# Altium integrated library Altera APEX 20KE.IntLib: 235 symbols (part 10 of 49)
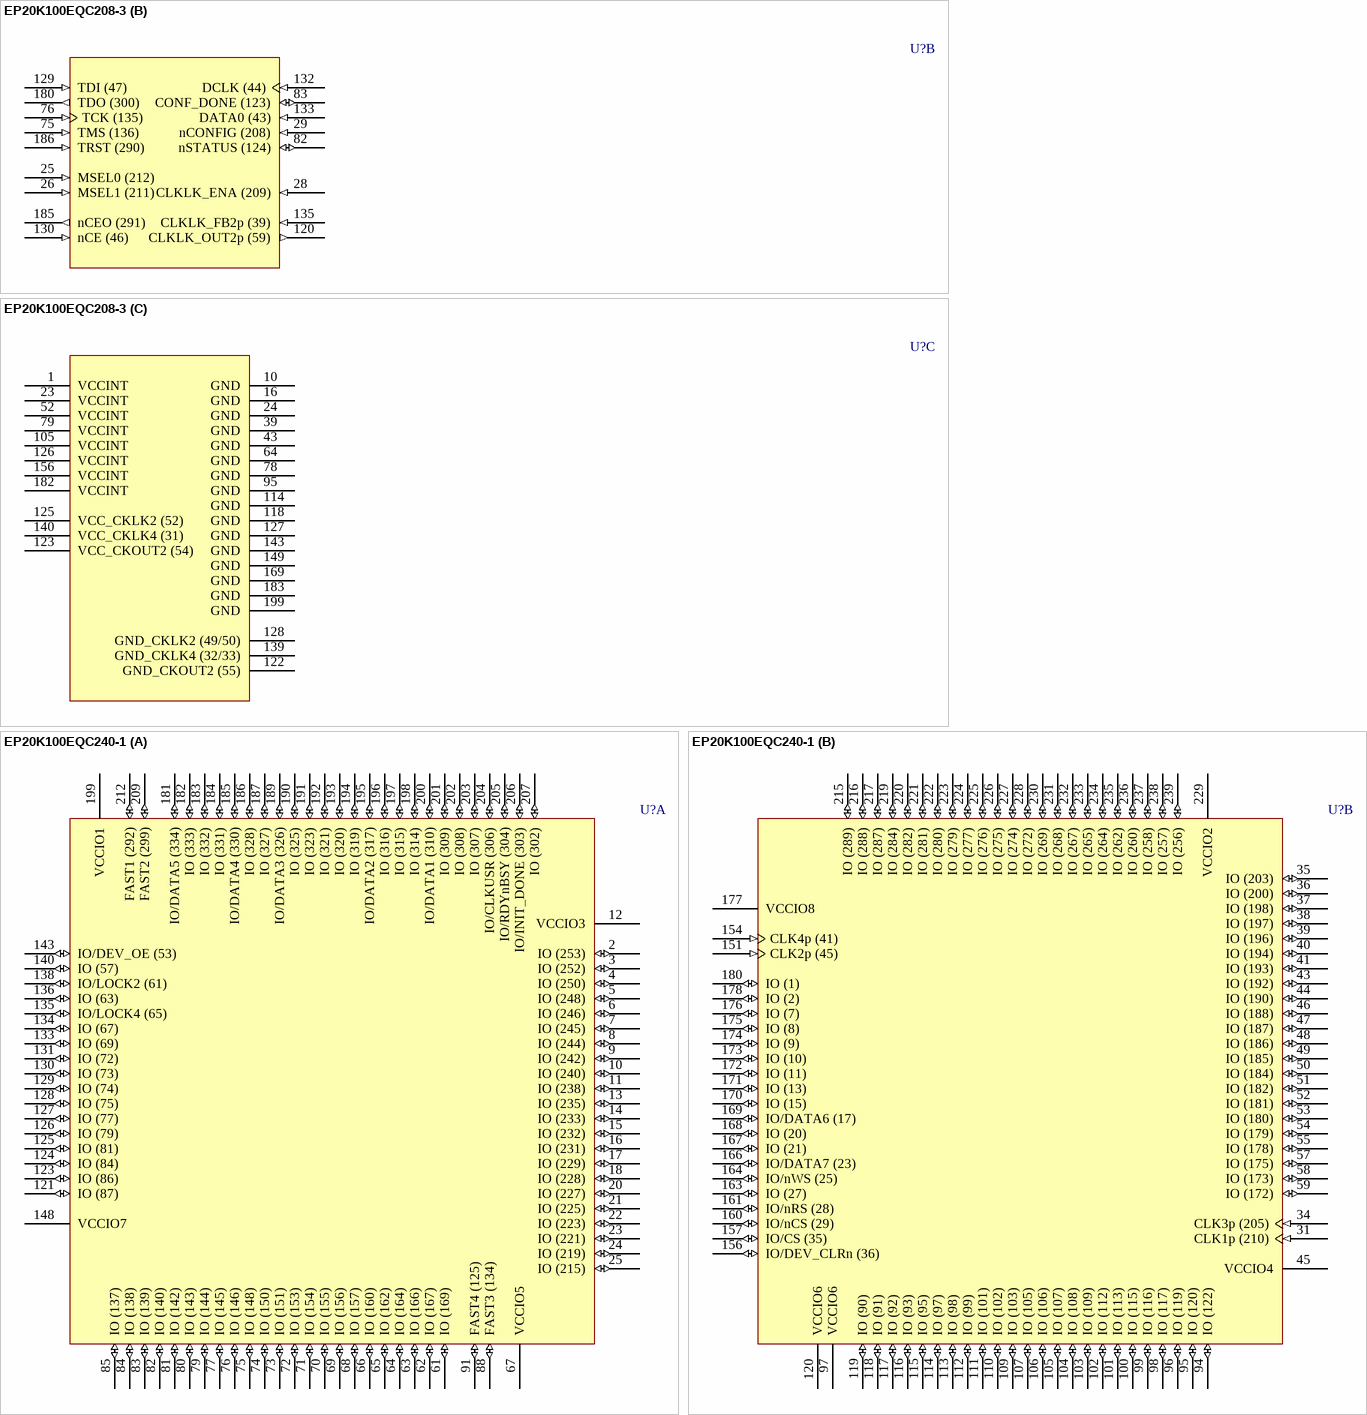
[diagram p408: symbols EP20K100EQC208-3 to EP20K100EQC240-1]

## EP20K100EQC208-3
designator U?
APEX 20K100E PLD, 208-Pin PQFP, Commercial Grade, Speed Grade 3; Published: 17-Jul-2002; LatestRevisionDate: 13-Apr-2006; LatestRevisionNote: IPC-7351 Footprint Added.; DatasheetVersion: Mar-2004; PackageVersion: ver14.1, Oct-2005; PackageReference: PQFP208; Publisher: Altium Limited; PackageDescription: 208-Pin Plastic Quad Flat Pack (PQFP208); Code_JEDEC: MS-029-FA-1; ComponentLink1Description: Manufacturer Link; ComponentLink1URL: http://www.altera.com/products/devices/apex/apx-index.html; ComponentLink2Description: Datasheet; ComponentLink2URL: http://www.altera.com/literature/ds/apex.pdf
footprint PQFP208_N (Shrink QFP, 208-Leads, Body 28x28mm, Pitch 0.5mm, IPC Medium Density)
footprint PQFP208_L (Shrink QFP, 208-Leads, Body 28x28mm, Pitch 0.5mm, IPC High Density)
footprint PQFP208_M (Shrink QFP, 208-Leads, Body 28x28mm, Pitch 0.5mm, IPC Low Density)
3D model EP20K100E-PQFP208 (208-Pin Plastic Quad Flat Pack (PQFP208))
part A pins: 2 IO (253) (io), 3 IO (252) (io), 4 IO (250) (io), 5 IO (248) (io), 6 IO (246) (io), 7 IO (245) (io), 8 VCCIO3 (power), 9 IO (242) (io), 11 IO (240) (io), 12 IO (235) (io), 13 IO (233) (io), 14 IO (229) (io), 15 IO (228) (io), 17 IO (227) (io), 18 IO (225) (io), 19 IO (223) (io), 20 IO (221) (io), 21 IO (219) (io), 22 IO (215) (io), 27 CLK1p (210) (in), 30 IO/CLK1n (206) (io), 31 CLK3p (205) (in), 32 IO (203) (io), 33 IO (200) (io), 34 IO (198) (io), 35 IO (197) (io), 36 IO (196) (io), 37 IO (194) (io), 38 IO (193) (io), 40 IO (192) (io), 41 IO (190) (io), 42 VCCIO4 (power), 44 IO (186) (io), 45 IO (184) (io), 46 IO (182) (io), 47 IO (180) (io), 48 IO (178) (io), 49 IO (175) (io), 50 IO (173) (io), 51 IO (172) (io), 53 VCCIO4 (power), 54 IO (169) (io), 55 IO (167) (io), 56 IO (166) (io), 57 IO (164) (io), 58 IO (162) (io), 59 IO (160) (io), 60 IO (157) (io), 61 IO (156) (io), 62 IO (154) (io), 63 IO (153) (io), 65 IO (151) (io), 66 IO (150) (io), 67 IO (148) (io), 68 IO (146) (io), 69 IO (145) (io), 70 IO (144) (io), 71 IO (142) (io), 72 IO (140) (io), 73 IO (138) (io), 74 IO (137) (io), 77 FAST3 (134) (io), 80 VCCIO5 (power), 81 FAST4 (125) (io), 84 IO (120) (io), 85 IO (119) (io), 86 VCCIO6 (power), 87 IO (117) (io), 88 IO (116) (io), 89 IO (115) (io), 90 IO (113) (io), 91 IO (112) (io), 92 IO (109) (io), 93 IO (107) (io), 94 IO (105) (io), 96 IO (103) (io), 97 IO (102) (io), 98 IO (101) (io), 99 IO (98) (io), 100 IO (97) (io), 101 IO (95) (io), 102 IO (93) (io), 103 IO (92) (io), 104 IO (90) (io), 106 IO (87) (io), 107 IO (86) (io), 108 IO (84) (io), 109 IO (81) (io), 110 IO (79) (io), 111 IO (77) (io), 112 IO (75) (io), 113 IO (74) (io), 115 VCCIO7 (power), 116 IO/LOCK4 (65) (io), 117 IO (63) (io), 119 IO/LOCK2 (61) (io), 121 IO (57) (io), 124 IO/DEV_OE (53) (io), 131 CLK2p (45) (in), 134 CLK4p (41) (in), 136 VCCIO8 (power), 137 IO/DEV_CLRn (36) (io), 138 IO/CS (35) (io), 141 IO/nCS (29) (io), 142 IO/nRS (28) (io), 144 IO (27) (io), 145 IO/nWS (25) (io), 146 IO/DATA7 (23) (io), 147 IO (21) (io), 148 IO (20) (io), 150 IO/DATA6 (17) (io), 151 IO (15) (io), 152 IO (11) (io), 153 IO (9) (io), 154 IO (7) (io), 155 IO (2) (io), 157 IO/DATA5 (334) (io), 158 IO (332) (io), 159 IO (331) (io), 160 IO/DATA4 (330) (io), 161 IO (328) (io), 162 IO (327) (io), 163 IO/DATA3 (326) (io), 164 IO (321) (io), 165 IO (320) (io), 166 IO (319) (io), 167 IO (318) (io), 168 IO/DATA2 (317) (io), 170 IO (316) (io), 171 IO (314) (io), 172 VCCIO1 (power), 173 IO/DATA1 (310) (io), 174 IO (309) (io), 175 IO (308) (io), 176 IO/CLKUSR (306) (io), 177 IO/RDYnBSY (304) (io), 178 IO/INIT_DONE (303) (io), 179 IO (302) (io), 181 FAST2 (299) (io), 184 FAST1 (292) (io), 187 IO (289) (io), 188 IO (287) (io), 189 VCCIO3 (power), 190 IO (284) (io), 191 IO (282) (io), 192 IO (280) (io), 193 IO (279) (io), 194 IO (277) (io), 195 IO (275) (io), 196 IO (274) (io), 197 IO (272) (io), 198 IO (269) (io), 200 IO (268) (io), 201 IO (267) (io), 202 IO (265) (io), 203 IO (264) (io), 204 IO (262) (io), 205 IO (260) (io), 206 IO (258) (io), 207 IO (256) (io), 208 VCCIO2 (power)
part B pins: 25 MSEL0 (212) (in), 26 MSEL1 (211) (in), 28 CLKLK_ENA (209) (in), 29 nCONFIG (208) (in), 75 TMS (136) (in), 76 TCK (135) (in), 82 nSTATUS (124) (io), 83 CONF_DONE (123) (io), 120 CLKLK_OUT2p (59) (out), 129 TDI (47) (in), 130 nCE (46) (in), 132 DCLK (44) (in), 133 DATA0 (43) (in), 135 CLKLK_FB2p (39) (in), 180 TDO (300) (out), 185 nCEO (291) (out), 186 TRST (290) (in)
part C pins: 1 VCCINT (power), 10 GND (power), 16 GND (power), 23 VCCINT (power), 24 GND (power), 39 GND (power), 43 GND (power), 52 VCCINT (power), 64 GND (power), 78 GND (power), 79 VCCINT (power), 95 GND (power), 105 VCCINT (power), 114 GND (power), 118 GND (power), 122 GND_CKOUT2 (55) (power), 123 VCC_CKOUT2 (54) (power), 125 VCC_CKLK2 (52) (power), 126 VCCINT (power), 127 GND (power), 128 GND_CKLK2 (49/50) (power), 139 GND_CKLK4 (32/33) (power), 140 VCC_CKLK4 (31) (power), 143 GND (power), 149 GND (power), 156 VCCINT (power), 169 GND (power), 182 VCCINT (power), 183 GND (power), 199 GND (power)

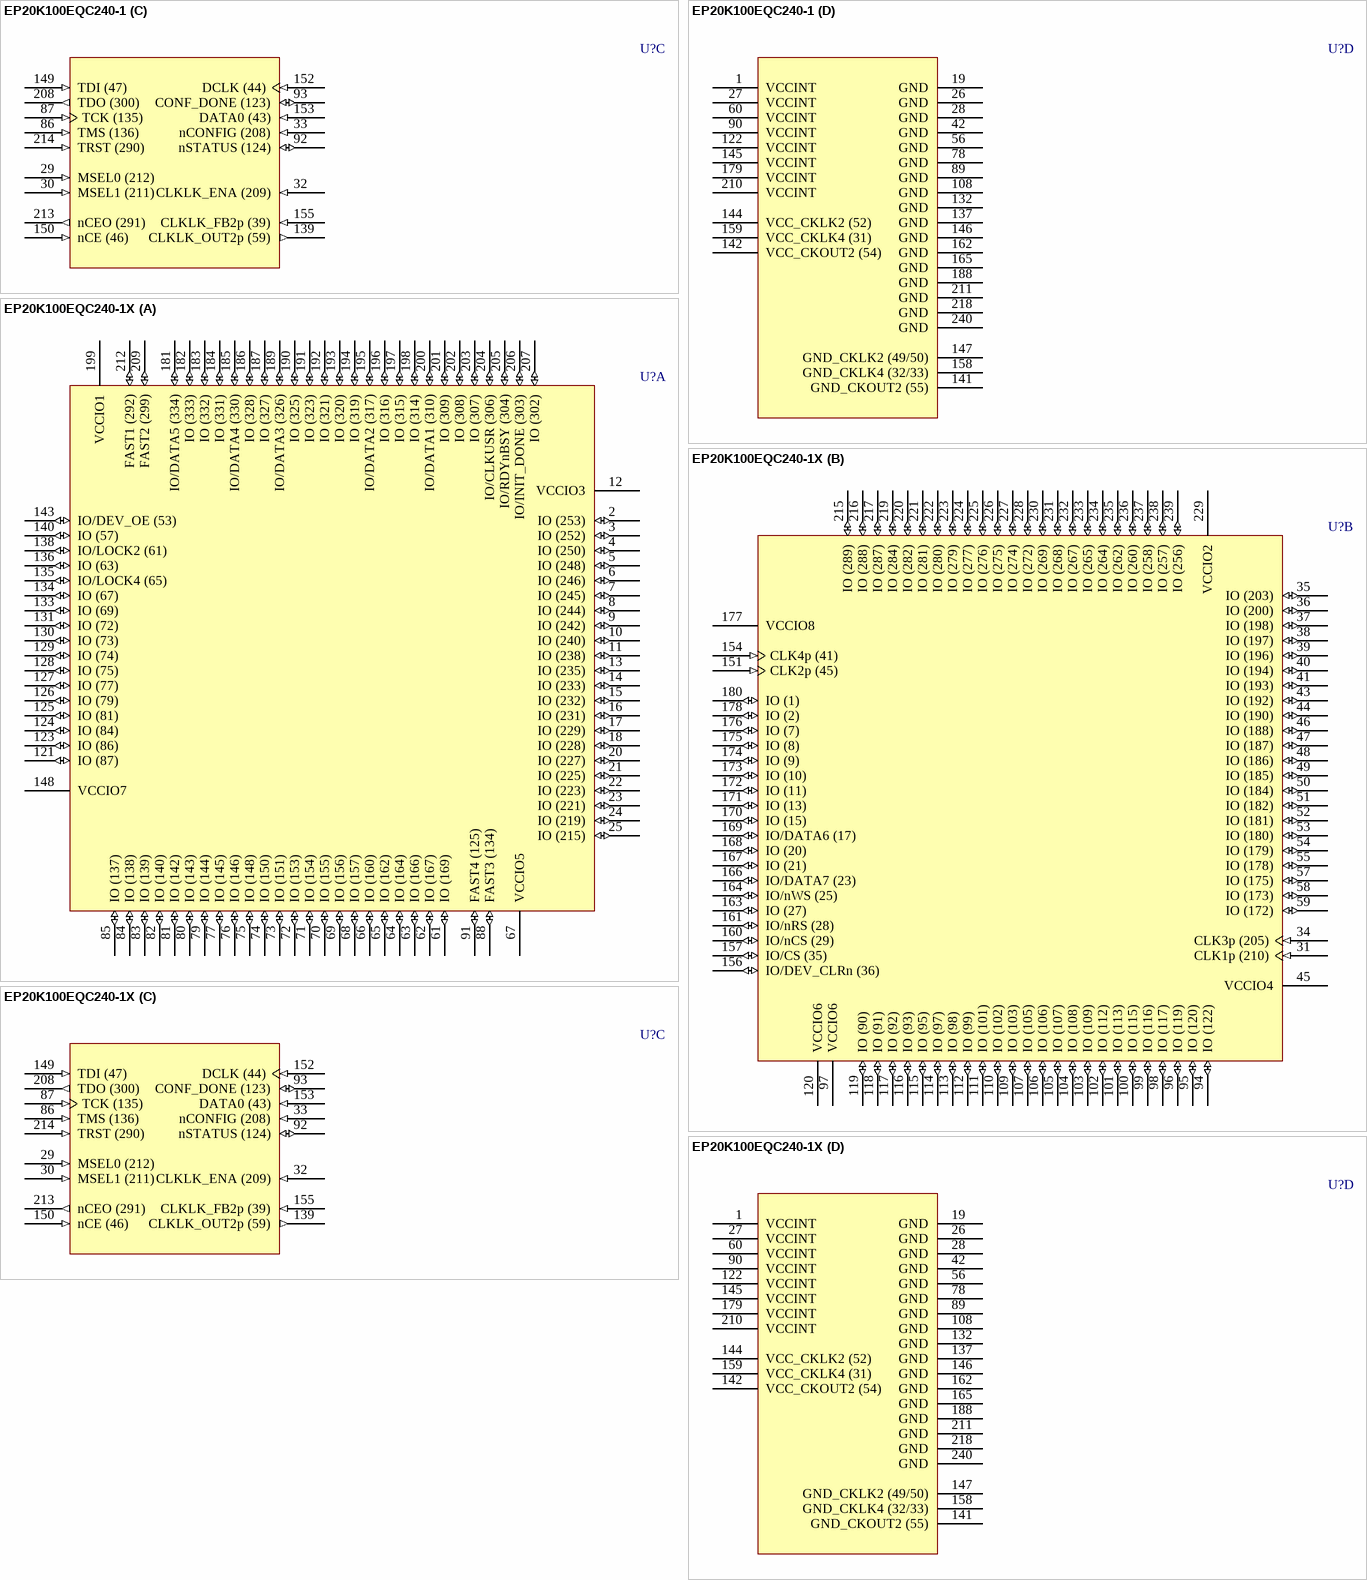
[diagram p103: symbols EP20K100EQC240-1 to EP20K100EQC240-1X]

## EP20K100EQC240-1
designator U?
APEX 20K100E PLD, 240-Pin PQFP, Commercial Grade, Speed Grade 1; Published: 17-Jul-2002; LatestRevisionDate: 13-Apr-2006; LatestRevisionNote: IPC-7351 Footprint Added.; DatasheetVersion: Mar-2004; PackageVersion: ver14.1, Oct-2005; PackageReference: PQFP240; Publisher: Altium Limited; PackageDescription: 240-Pin Plastic Quad Flat Pack (PQFP240); Code_JEDEC: MS-029-GA; ComponentLink1Description: Manufacturer Link; ComponentLink1URL: http://www.altera.com/products/devices/apex/apx-index.html; ComponentLink2Description: Datasheet; ComponentLink2URL: http://www.altera.com/literature/ds/apex.pdf
footprint PQFP240_N (Shrink QFP, 240-Leads, Body 32x32mm, Pitch 0.5mm, IPC Medium Density)
footprint PQFP240_L (Shrink QFP, 240-Leads, Body 32x32mm, Pitch 0.5mm, IPC High Density)
footprint PQFP240_M (Shrink QFP, 240-Leads, Body 32x32mm, Pitch 0.5mm, IPC Low Density)
3D model EP20K100E-PQFP240 (240-Pin Plastic Quad Flat Pack (PQFP240))
part A pins: 2 IO (253) (io), 3 IO (252) (io), 4 IO (250) (io), 5 IO (248) (io), 6 IO (246) (io), 7 IO (245) (io), 8 IO (244) (io), 9 IO (242) (io), 10 IO (240) (io), 11 IO (238) (io), 12 VCCIO3 (power), 13 IO (235) (io), 14 IO (233) (io), 15 IO (232) (io), 16 IO (231) (io), 17 IO (229) (io), 18 IO (228) (io), 20 IO (227) (io), 21 IO (225) (io), 22 IO (223) (io), 23 IO (221) (io), 24 IO (219) (io), 25 IO (215) (io), 61 IO (169) (io), 62 IO (167) (io), 63 IO (166) (io), 64 IO (164) (io), 65 IO (162) (io), 66 IO (160) (io), 67 VCCIO5 (power), 68 IO (157) (io), 69 IO (156) (io), 70 IO (155) (io), 71 IO (154) (io), 72 IO (153) (io), 73 IO (151) (io), 74 IO (150) (io), 75 IO (148) (io), 76 IO (146) (io), 77 IO (145) (io), 79 IO (144) (io), 80 IO (143) (io), 81 IO (142) (io), 82 IO (140) (io), 83 IO (139) (io), 84 IO (138) (io), 85 IO (137) (io), 88 FAST3 (134) (io), 91 FAST4 (125) (io), 121 IO (87) (io), 123 IO (86) (io), 124 IO (84) (io), 125 IO (81) (io), 126 IO (79) (io), 127 IO (77) (io), 128 IO (75) (io), 129 IO (74) (io), 130 IO (73) (io), 131 IO (72) (io), 133 IO (69) (io), 134 IO (67) (io), 135 IO/LOCK4 (65) (io), 136 IO (63) (io), 138 IO/LOCK2 (61) (io), 140 IO (57) (io), 143 IO/DEV_OE (53) (io), 148 VCCIO7 (power), 181 IO/DATA5 (334) (io), 182 IO (333) (io), 183 IO (332) (io), 184 IO (331) (io), 185 IO/DATA4 (330) (io), 186 IO (328) (io), 187 IO (327) (io), 189 IO/DATA3 (326) (io), 190 IO (325) (io), 191 IO (323) (io), 192 IO (321) (io), 193 IO (320) (io), 194 IO (319) (io), 195 IO/DATA2 (317) (io), 196 IO (316) (io), 197 IO (315) (io), 198 IO (314) (io), 199 VCCIO1 (power), 200 IO/DATA1 (310) (io), 201 IO (309) (io), 202 IO (308) (io), 203 IO (307) (io), 204 IO/CLKUSR (306) (io), 205 IO/RDYnBSY (304) (io), 206 IO/INIT_DONE (303) (io), 207 IO (302) (io), 209 FAST2 (299) (io), 212 FAST1 (292) (io)
part B pins: 31 CLK1p (210) (in), 34 CLK3p (205) (in), 35 IO (203) (io), 36 IO (200) (io), 37 IO (198) (io), 38 IO (197) (io), 39 IO (196) (io), 40 IO (194) (io), 41 IO (193) (io), 43 IO (192) (io), 44 IO (190) (io), 45 VCCIO4 (power), 46 IO (188) (io), 47 IO (187) (io), 48 IO (186) (io), 49 IO (185) (io), 50 IO (184) (io), 51 IO (182) (io), 52 IO (181) (io), 53 IO (180) (io), 54 IO (179) (io), 55 IO (178) (io), 57 IO (175) (io), 58 IO (173) (io), 59 IO (172) (io), 94 IO (122) (io), 95 IO (120) (io), 96 IO (119) (io), 97 VCCIO6 (power), 98 IO (117) (io), 99 IO (116) (io), 100 IO (115) (io), 101 IO (113) (io), 102 IO (112) (io), 103 IO (109) (io), 104 IO (108) (io), 105 IO (107) (io), 106 IO (106) (io), 107 IO (105) (io), 109 IO (103) (io), 110 IO (102) (io), 111 IO (101) (io), 112 IO (99) (io), 113 IO (98) (io), 114 IO (97) (io), 115 IO (95) (io), 116 IO (93) (io), 117 IO (92) (io), 118 IO (91) (io), 119 IO (90) (io), 120 VCCIO6 (power), 151 CLK2p (45) (in), 154 CLK4p (41) (in), 156 IO/DEV_CLRn (36) (io), 157 IO/CS (35) (io), 160 IO/nCS (29) (io), 161 IO/nRS (28) (io), 163 IO (27) (io), 164 IO/nWS (25) (io), 166 IO/DATA7 (23) (io), 167 IO (21) (io), 168 IO (20) (io), 169 IO/DATA6 (17) (io), 170 IO (15) (io), 171 IO (13) (io), 172 IO (11) (io), 173 IO (10) (io), 174 IO (9) (io), 175 IO (8) (io), 176 IO (7) (io), 177 VCCIO8 (power), 178 IO (2) (io), 180 IO (1) (io), 215 IO (289) (io), 216 IO (288) (io), 217 IO (287) (io), 219 IO (284) (io), 220 IO (282) (io), 221 IO (281) (io), 222 IO (280) (io), 223 IO (279) (io), 224 IO (277) (io), 225 IO (276) (io), 226 IO (275) (io), 227 IO (274) (io), 228 IO (272) (io), 229 VCCIO2 (power), 230 IO (269) (io), 231 IO (268) (io), 232 IO (267) (io), 233 IO (265) (io), 234 IO (264) (io), 235 IO (262) (io), 236 IO (260) (io), 237 IO (258) (io), 238 IO (257) (io), 239 IO (256) (io)
part C pins: 29 MSEL0 (212) (in), 30 MSEL1 (211) (in), 32 CLKLK_ENA (209) (in), 33 nCONFIG (208) (in), 86 TMS (136) (in), 87 TCK (135) (in), 92 nSTATUS (124) (io), 93 CONF_DONE (123) (io), 139 CLKLK_OUT2p (59) (out), 149 TDI (47) (in), 150 nCE (46) (in), 152 DCLK (44) (in), 153 DATA0 (43) (in), 155 CLKLK_FB2p (39) (in), 208 TDO (300) (out), 213 nCEO (291) (out), 214 TRST (290) (in)
part D pins: 1 VCCINT (power), 19 GND (power), 26 GND (power), 27 VCCINT (power), 28 GND (power), 42 GND (power), 56 GND (power), 60 VCCINT (power), 78 GND (power), 89 GND (power), 90 VCCINT (power), 108 GND (power), 122 VCCINT (power), 132 GND (power), 137 GND (power), 141 GND_CKOUT2 (55) (power), 142 VCC_CKOUT2 (54) (power), 144 VCC_CKLK2 (52) (power), 145 VCCINT (power), 146 GND (power), 147 GND_CKLK2 (49/50) (power), 158 GND_CKLK4 (32/33) (power), 159 VCC_CKLK4 (31) (power), 162 GND (power), 165 GND (power), 179 VCCINT (power), 188 GND (power), 210 VCCINT (power), 211 GND (power), 218 GND (power), 240 GND (power)

## EP20K100EQC240-1X
designator U?
APEX 20K100E PLD with PLLs and LVDS, 240-Pin PQFP, Commercial Grade, Speed Grade 1; Published: 17-Jul-2002; LatestRevisionDate: 13-Apr-2006; LatestRevisionNote: IPC-7351 Footprint Added.; DatasheetVersion: Mar-2004; PackageVersion: ver14.1, Oct-2005; PackageReference: PQFP240; Publisher: Altium Limited; PackageDescription: 240-Pin Plastic Quad Flat Pack (PQFP240); Code_JEDEC: MS-029-GA; ComponentLink1Description: Manufacturer Link; ComponentLink1URL: http://www.altera.com/products/devices/apex/apx-index.html; ComponentLink2Description: Datasheet; ComponentLink2URL: http://www.altera.com/literature/ds/apex.pdf
footprint PQFP240_N (Shrink QFP, 240-Leads, Body 32x32mm, Pitch 0.5mm, IPC Medium Density)
footprint PQFP240_L (Shrink QFP, 240-Leads, Body 32x32mm, Pitch 0.5mm, IPC High Density)
footprint PQFP240_M (Shrink QFP, 240-Leads, Body 32x32mm, Pitch 0.5mm, IPC Low Density)
3D model EP20K100E-PQFP240 (240-Pin Plastic Quad Flat Pack (PQFP240))
part A pins: 2 IO (253) (io), 3 IO (252) (io), 4 IO (250) (io), 5 IO (248) (io), 6 IO (246) (io), 7 IO (245) (io), 8 IO (244) (io), 9 IO (242) (io), 10 IO (240) (io), 11 IO (238) (io), 12 VCCIO3 (power), 13 IO (235) (io), 14 IO (233) (io), 15 IO (232) (io), 16 IO (231) (io), 17 IO (229) (io), 18 IO (228) (io), 20 IO (227) (io), 21 IO (225) (io), 22 IO (223) (io), 23 IO (221) (io), 24 IO (219) (io), 25 IO (215) (io), 61 IO (169) (io), 62 IO (167) (io), 63 IO (166) (io), 64 IO (164) (io), 65 IO (162) (io), 66 IO (160) (io), 67 VCCIO5 (power), 68 IO (157) (io), 69 IO (156) (io), 70 IO (155) (io), 71 IO (154) (io), 72 IO (153) (io), 73 IO (151) (io), 74 IO (150) (io), 75 IO (148) (io), 76 IO (146) (io), 77 IO (145) (io), 79 IO (144) (io), 80 IO (143) (io), 81 IO (142) (io), 82 IO (140) (io), 83 IO (139) (io), 84 IO (138) (io), 85 IO (137) (io), 88 FAST3 (134) (io), 91 FAST4 (125) (io), 121 IO (87) (io), 123 IO (86) (io), 124 IO (84) (io), 125 IO (81) (io), 126 IO (79) (io), 127 IO (77) (io), 128 IO (75) (io), 129 IO (74) (io), 130 IO (73) (io), 131 IO (72) (io), 133 IO (69) (io), 134 IO (67) (io), 135 IO/LOCK4 (65) (io), 136 IO (63) (io), 138 IO/LOCK2 (61) (io), 140 IO (57) (io), 143 IO/DEV_OE (53) (io), 148 VCCIO7 (power), 181 IO/DATA5 (334) (io), 182 IO (333) (io), 183 IO (332) (io), 184 IO (331) (io), 185 IO/DATA4 (330) (io), 186 IO (328) (io), 187 IO (327) (io), 189 IO/DATA3 (326) (io), 190 IO (325) (io), 191 IO (323) (io), 192 IO (321) (io), 193 IO (320) (io), 194 IO (319) (io), 195 IO/DATA2 (317) (io), 196 IO (316) (io), 197 IO (315) (io), 198 IO (314) (io), 199 VCCIO1 (power), 200 IO/DATA1 (310) (io), 201 IO (309) (io), 202 IO (308) (io), 203 IO (307) (io), 204 IO/CLKUSR (306) (io), 205 IO/RDYnBSY (304) (io), 206 IO/INIT_DONE (303) (io), 207 IO (302) (io), 209 FAST2 (299) (io), 212 FAST1 (292) (io)
part B pins: 31 CLK1p (210) (in), 34 CLK3p (205) (in), 35 IO (203) (io), 36 IO (200) (io), 37 IO (198) (io), 38 IO (197) (io), 39 IO (196) (io), 40 IO (194) (io), 41 IO (193) (io), 43 IO (192) (io), 44 IO (190) (io), 45 VCCIO4 (power), 46 IO (188) (io), 47 IO (187) (io), 48 IO (186) (io), 49 IO (185) (io), 50 IO (184) (io), 51 IO (182) (io), 52 IO (181) (io), 53 IO (180) (io), 54 IO (179) (io), 55 IO (178) (io), 57 IO (175) (io), 58 IO (173) (io), 59 IO (172) (io), 94 IO (122) (io), 95 IO (120) (io), 96 IO (119) (io), 97 VCCIO6 (power), 98 IO (117) (io), 99 IO (116) (io), 100 IO (115) (io), 101 IO (113) (io), 102 IO (112) (io), 103 IO (109) (io), 104 IO (108) (io), 105 IO (107) (io), 106 IO (106) (io), 107 IO (105) (io), 109 IO (103) (io), 110 IO (102) (io), 111 IO (101) (io), 112 IO (99) (io), 113 IO (98) (io), 114 IO (97) (io), 115 IO (95) (io), 116 IO (93) (io), 117 IO (92) (io), 118 IO (91) (io), 119 IO (90) (io), 120 VCCIO6 (power), 151 CLK2p (45) (in), 154 CLK4p (41) (in), 156 IO/DEV_CLRn (36) (io), 157 IO/CS (35) (io), 160 IO/nCS (29) (io), 161 IO/nRS (28) (io), 163 IO (27) (io), 164 IO/nWS (25) (io), 166 IO/DATA7 (23) (io), 167 IO (21) (io), 168 IO (20) (io), 169 IO/DATA6 (17) (io), 170 IO (15) (io), 171 IO (13) (io), 172 IO (11) (io), 173 IO (10) (io), 174 IO (9) (io), 175 IO (8) (io), 176 IO (7) (io), 177 VCCIO8 (power), 178 IO (2) (io), 180 IO (1) (io), 215 IO (289) (io), 216 IO (288) (io), 217 IO (287) (io), 219 IO (284) (io), 220 IO (282) (io), 221 IO (281) (io), 222 IO (280) (io), 223 IO (279) (io), 224 IO (277) (io), 225 IO (276) (io), 226 IO (275) (io), 227 IO (274) (io), 228 IO (272) (io), 229 VCCIO2 (power), 230 IO (269) (io), 231 IO (268) (io), 232 IO (267) (io), 233 IO (265) (io), 234 IO (264) (io), 235 IO (262) (io), 236 IO (260) (io), 237 IO (258) (io), 238 IO (257) (io), 239 IO (256) (io)
part C pins: 29 MSEL0 (212) (in), 30 MSEL1 (211) (in), 32 CLKLK_ENA (209) (in), 33 nCONFIG (208) (in), 86 TMS (136) (in), 87 TCK (135) (in), 92 nSTATUS (124) (io), 93 CONF_DONE (123) (io), 139 CLKLK_OUT2p (59) (out), 149 TDI (47) (in), 150 nCE (46) (in), 152 DCLK (44) (in), 153 DATA0 (43) (in), 155 CLKLK_FB2p (39) (in), 208 TDO (300) (out), 213 nCEO (291) (out), 214 TRST (290) (in)
part D pins: 1 VCCINT (power), 19 GND (power), 26 GND (power), 27 VCCINT (power), 28 GND (power), 42 GND (power), 56 GND (power), 60 VCCINT (power), 78 GND (power), 89 GND (power), 90 VCCINT (power), 108 GND (power), 122 VCCINT (power), 132 GND (power), 137 GND (power), 141 GND_CKOUT2 (55) (power), 142 VCC_CKOUT2 (54) (power), 144 VCC_CKLK2 (52) (power), 145 VCCINT (power), 146 GND (power), 147 GND_CKLK2 (49/50) (power), 158 GND_CKLK4 (32/33) (power), 159 VCC_CKLK4 (31) (power), 162 GND (power), 165 GND (power), 179 VCCINT (power), 188 GND (power), 210 VCCINT (power), 211 GND (power), 218 GND (power), 240 GND (power)

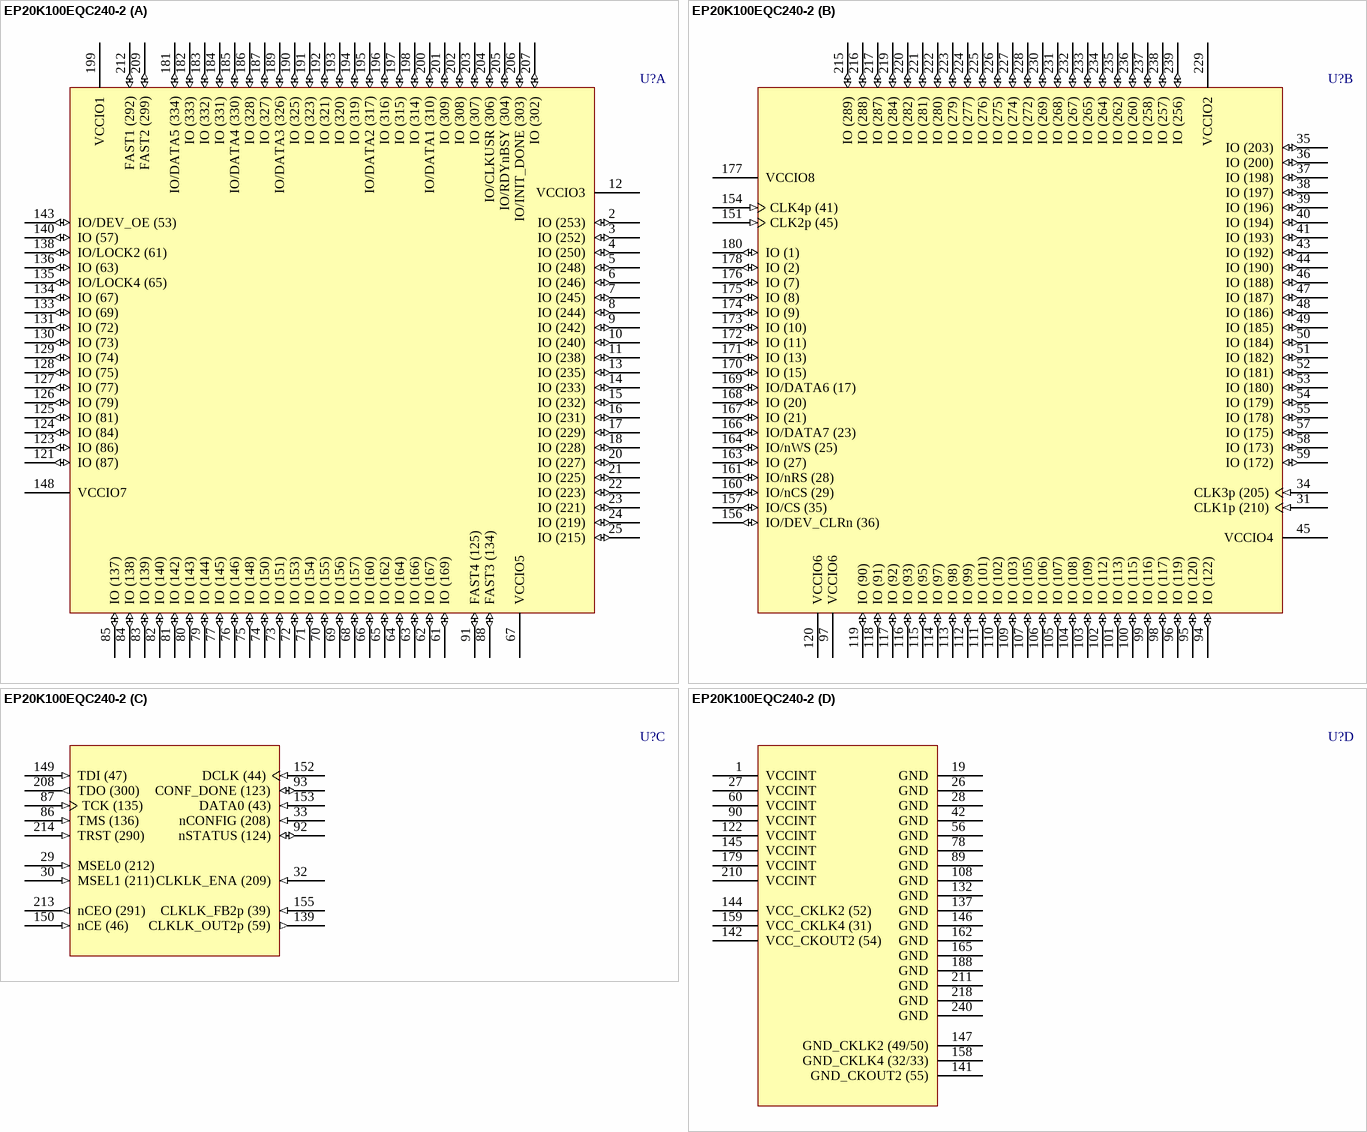
[diagram p104: symbol EP20K100EQC240-2]

## EP20K100EQC240-2
designator U?
APEX 20K100E PLD, 240-Pin PQFP, Commercial Grade, Speed Grade 2; Published: 17-Jul-2002; LatestRevisionDate: 13-Apr-2006; LatestRevisionNote: IPC-7351 Footprint Added.; DatasheetVersion: Mar-2004; PackageVersion: ver14.1, Oct-2005; PackageReference: PQFP240; Publisher: Altium Limited; PackageDescription: 240-Pin Plastic Quad Flat Pack (PQFP240); Code_JEDEC: MS-029-GA; ComponentLink1Description: Manufacturer Link; ComponentLink1URL: http://www.altera.com/products/devices/apex/apx-index.html; ComponentLink2Description: Datasheet; ComponentLink2URL: http://www.altera.com/literature/ds/apex.pdf
footprint PQFP240_N (Shrink QFP, 240-Leads, Body 32x32mm, Pitch 0.5mm, IPC Medium Density)
footprint PQFP240_L (Shrink QFP, 240-Leads, Body 32x32mm, Pitch 0.5mm, IPC High Density)
footprint PQFP240_M (Shrink QFP, 240-Leads, Body 32x32mm, Pitch 0.5mm, IPC Low Density)
3D model EP20K100E-PQFP240 (240-Pin Plastic Quad Flat Pack (PQFP240))
part A pins: 2 IO (253) (io), 3 IO (252) (io), 4 IO (250) (io), 5 IO (248) (io), 6 IO (246) (io), 7 IO (245) (io), 8 IO (244) (io), 9 IO (242) (io), 10 IO (240) (io), 11 IO (238) (io), 12 VCCIO3 (power), 13 IO (235) (io), 14 IO (233) (io), 15 IO (232) (io), 16 IO (231) (io), 17 IO (229) (io), 18 IO (228) (io), 20 IO (227) (io), 21 IO (225) (io), 22 IO (223) (io), 23 IO (221) (io), 24 IO (219) (io), 25 IO (215) (io), 61 IO (169) (io), 62 IO (167) (io), 63 IO (166) (io), 64 IO (164) (io), 65 IO (162) (io), 66 IO (160) (io), 67 VCCIO5 (power), 68 IO (157) (io), 69 IO (156) (io), 70 IO (155) (io), 71 IO (154) (io), 72 IO (153) (io), 73 IO (151) (io), 74 IO (150) (io), 75 IO (148) (io), 76 IO (146) (io), 77 IO (145) (io), 79 IO (144) (io), 80 IO (143) (io), 81 IO (142) (io), 82 IO (140) (io), 83 IO (139) (io), 84 IO (138) (io), 85 IO (137) (io), 88 FAST3 (134) (io), 91 FAST4 (125) (io), 121 IO (87) (io), 123 IO (86) (io), 124 IO (84) (io), 125 IO (81) (io), 126 IO (79) (io), 127 IO (77) (io), 128 IO (75) (io), 129 IO (74) (io), 130 IO (73) (io), 131 IO (72) (io), 133 IO (69) (io), 134 IO (67) (io), 135 IO/LOCK4 (65) (io), 136 IO (63) (io), 138 IO/LOCK2 (61) (io), 140 IO (57) (io), 143 IO/DEV_OE (53) (io), 148 VCCIO7 (power), 181 IO/DATA5 (334) (io), 182 IO (333) (io), 183 IO (332) (io), 184 IO (331) (io), 185 IO/DATA4 (330) (io), 186 IO (328) (io), 187 IO (327) (io), 189 IO/DATA3 (326) (io), 190 IO (325) (io), 191 IO (323) (io), 192 IO (321) (io), 193 IO (320) (io), 194 IO (319) (io), 195 IO/DATA2 (317) (io), 196 IO (316) (io), 197 IO (315) (io), 198 IO (314) (io), 199 VCCIO1 (power), 200 IO/DATA1 (310) (io), 201 IO (309) (io), 202 IO (308) (io), 203 IO (307) (io), 204 IO/CLKUSR (306) (io), 205 IO/RDYnBSY (304) (io), 206 IO/INIT_DONE (303) (io), 207 IO (302) (io), 209 FAST2 (299) (io), 212 FAST1 (292) (io)
part B pins: 31 CLK1p (210) (in), 34 CLK3p (205) (in), 35 IO (203) (io), 36 IO (200) (io), 37 IO (198) (io), 38 IO (197) (io), 39 IO (196) (io), 40 IO (194) (io), 41 IO (193) (io), 43 IO (192) (io), 44 IO (190) (io), 45 VCCIO4 (power), 46 IO (188) (io), 47 IO (187) (io), 48 IO (186) (io), 49 IO (185) (io), 50 IO (184) (io), 51 IO (182) (io), 52 IO (181) (io), 53 IO (180) (io), 54 IO (179) (io), 55 IO (178) (io), 57 IO (175) (io), 58 IO (173) (io), 59 IO (172) (io), 94 IO (122) (io), 95 IO (120) (io), 96 IO (119) (io), 97 VCCIO6 (power), 98 IO (117) (io), 99 IO (116) (io), 100 IO (115) (io), 101 IO (113) (io), 102 IO (112) (io), 103 IO (109) (io), 104 IO (108) (io), 105 IO (107) (io), 106 IO (106) (io), 107 IO (105) (io), 109 IO (103) (io), 110 IO (102) (io), 111 IO (101) (io), 112 IO (99) (io), 113 IO (98) (io), 114 IO (97) (io), 115 IO (95) (io), 116 IO (93) (io), 117 IO (92) (io), 118 IO (91) (io), 119 IO (90) (io), 120 VCCIO6 (power), 151 CLK2p (45) (in), 154 CLK4p (41) (in), 156 IO/DEV_CLRn (36) (io), 157 IO/CS (35) (io), 160 IO/nCS (29) (io), 161 IO/nRS (28) (io), 163 IO (27) (io), 164 IO/nWS (25) (io), 166 IO/DATA7 (23) (io), 167 IO (21) (io), 168 IO (20) (io), 169 IO/DATA6 (17) (io), 170 IO (15) (io), 171 IO (13) (io), 172 IO (11) (io), 173 IO (10) (io), 174 IO (9) (io), 175 IO (8) (io), 176 IO (7) (io), 177 VCCIO8 (power), 178 IO (2) (io), 180 IO (1) (io), 215 IO (289) (io), 216 IO (288) (io), 217 IO (287) (io), 219 IO (284) (io), 220 IO (282) (io), 221 IO (281) (io), 222 IO (280) (io), 223 IO (279) (io), 224 IO (277) (io), 225 IO (276) (io), 226 IO (275) (io), 227 IO (274) (io), 228 IO (272) (io), 229 VCCIO2 (power), 230 IO (269) (io), 231 IO (268) (io), 232 IO (267) (io), 233 IO (265) (io), 234 IO (264) (io), 235 IO (262) (io), 236 IO (260) (io), 237 IO (258) (io), 238 IO (257) (io), 239 IO (256) (io)
part C pins: 29 MSEL0 (212) (in), 30 MSEL1 (211) (in), 32 CLKLK_ENA (209) (in), 33 nCONFIG (208) (in), 86 TMS (136) (in), 87 TCK (135) (in), 92 nSTATUS (124) (io), 93 CONF_DONE (123) (io), 139 CLKLK_OUT2p (59) (out), 149 TDI (47) (in), 150 nCE (46) (in), 152 DCLK (44) (in), 153 DATA0 (43) (in), 155 CLKLK_FB2p (39) (in), 208 TDO (300) (out), 213 nCEO (291) (out), 214 TRST (290) (in)
part D pins: 1 VCCINT (power), 19 GND (power), 26 GND (power), 27 VCCINT (power), 28 GND (power), 42 GND (power), 56 GND (power), 60 VCCINT (power), 78 GND (power), 89 GND (power), 90 VCCINT (power), 108 GND (power), 122 VCCINT (power), 132 GND (power), 137 GND (power), 141 GND_CKOUT2 (55) (power), 142 VCC_CKOUT2 (54) (power), 144 VCC_CKLK2 (52) (power), 145 VCCINT (power), 146 GND (power), 147 GND_CKLK2 (49/50) (power), 158 GND_CKLK4 (32/33) (power), 159 VCC_CKLK4 (31) (power), 162 GND (power), 165 GND (power), 179 VCCINT (power), 188 GND (power), 210 VCCINT (power), 211 GND (power), 218 GND (power), 240 GND (power)

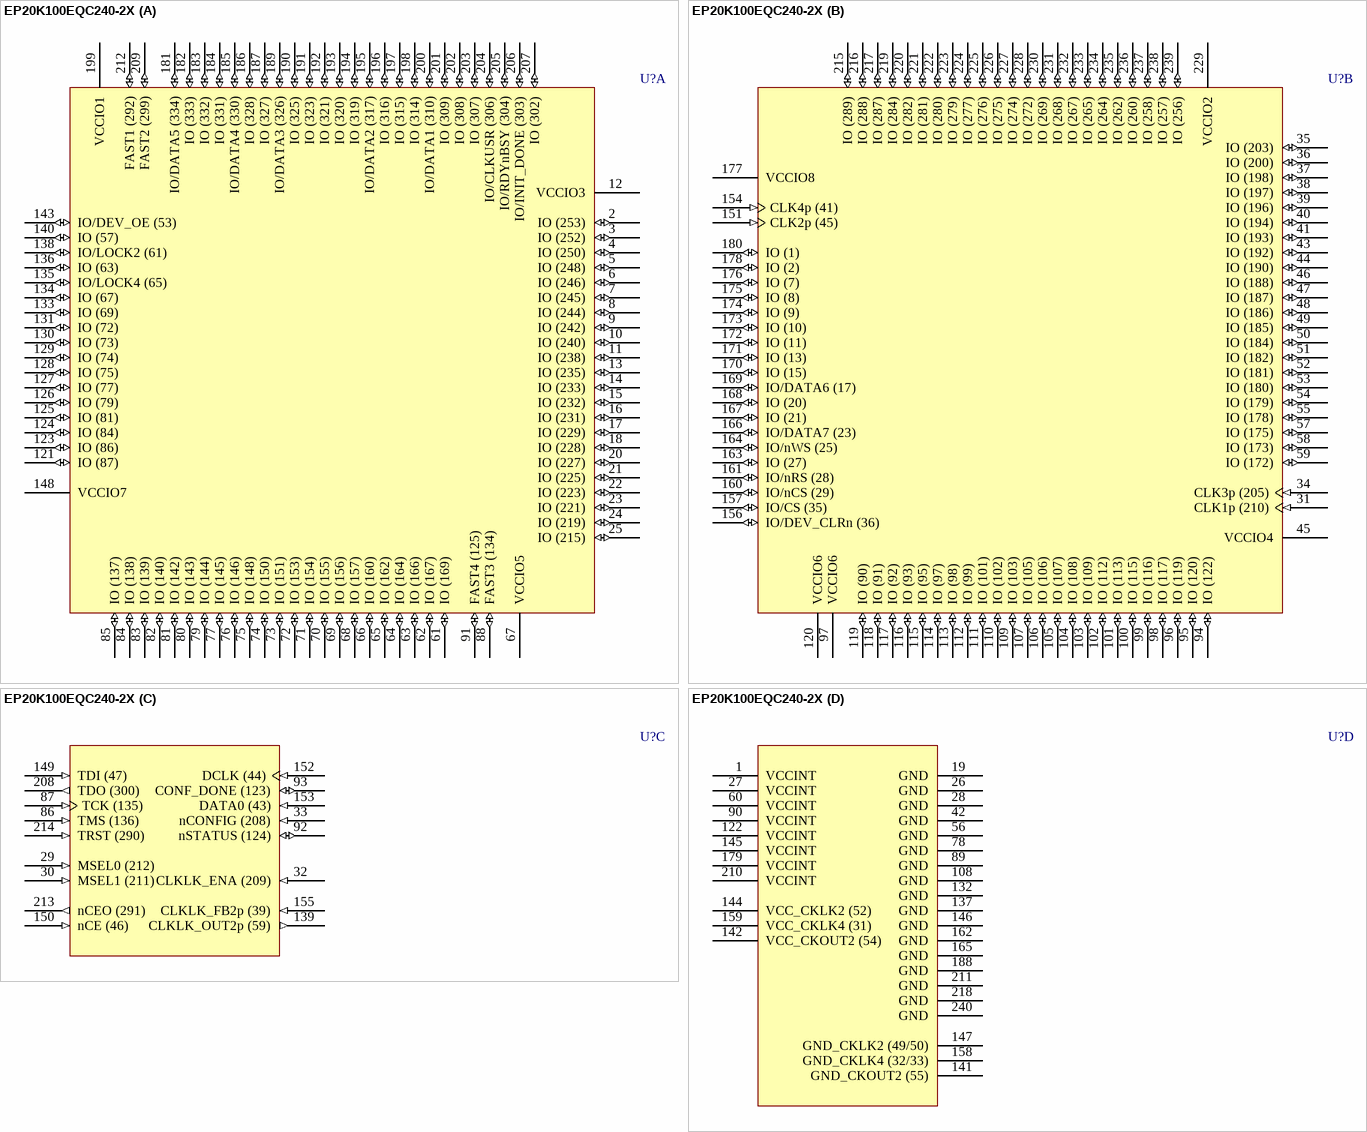
[diagram p105: symbol EP20K100EQC240-2X]

## EP20K100EQC240-2X
designator U?
APEX 20K100E PLD with PLLs and LVDS, 240-Pin PQFP, Commercial Grade, Speed Grade 2; Published: 17-Jul-2002; LatestRevisionDate: 13-Apr-2006; LatestRevisionNote: IPC-7351 Footprint Added.; DatasheetVersion: Mar-2004; PackageVersion: ver14.1, Oct-2005; PackageReference: PQFP240; Publisher: Altium Limited; PackageDescription: 240-Pin Plastic Quad Flat Pack (PQFP240); Code_JEDEC: MS-029-GA; ComponentLink1Description: Manufacturer Link; ComponentLink1URL: http://www.altera.com/products/devices/apex/apx-index.html; ComponentLink2Description: Datasheet; ComponentLink2URL: http://www.altera.com/literature/ds/apex.pdf
footprint PQFP240_N (Shrink QFP, 240-Leads, Body 32x32mm, Pitch 0.5mm, IPC Medium Density)
footprint PQFP240_L (Shrink QFP, 240-Leads, Body 32x32mm, Pitch 0.5mm, IPC High Density)
footprint PQFP240_M (Shrink QFP, 240-Leads, Body 32x32mm, Pitch 0.5mm, IPC Low Density)
3D model EP20K100E-PQFP240 (240-Pin Plastic Quad Flat Pack (PQFP240))
part A pins: 2 IO (253) (io), 3 IO (252) (io), 4 IO (250) (io), 5 IO (248) (io), 6 IO (246) (io), 7 IO (245) (io), 8 IO (244) (io), 9 IO (242) (io), 10 IO (240) (io), 11 IO (238) (io), 12 VCCIO3 (power), 13 IO (235) (io), 14 IO (233) (io), 15 IO (232) (io), 16 IO (231) (io), 17 IO (229) (io), 18 IO (228) (io), 20 IO (227) (io), 21 IO (225) (io), 22 IO (223) (io), 23 IO (221) (io), 24 IO (219) (io), 25 IO (215) (io), 61 IO (169) (io), 62 IO (167) (io), 63 IO (166) (io), 64 IO (164) (io), 65 IO (162) (io), 66 IO (160) (io), 67 VCCIO5 (power), 68 IO (157) (io), 69 IO (156) (io), 70 IO (155) (io), 71 IO (154) (io), 72 IO (153) (io), 73 IO (151) (io), 74 IO (150) (io), 75 IO (148) (io), 76 IO (146) (io), 77 IO (145) (io), 79 IO (144) (io), 80 IO (143) (io), 81 IO (142) (io), 82 IO (140) (io), 83 IO (139) (io), 84 IO (138) (io), 85 IO (137) (io), 88 FAST3 (134) (io), 91 FAST4 (125) (io), 121 IO (87) (io), 123 IO (86) (io), 124 IO (84) (io), 125 IO (81) (io), 126 IO (79) (io), 127 IO (77) (io), 128 IO (75) (io), 129 IO (74) (io), 130 IO (73) (io), 131 IO (72) (io), 133 IO (69) (io), 134 IO (67) (io), 135 IO/LOCK4 (65) (io), 136 IO (63) (io), 138 IO/LOCK2 (61) (io), 140 IO (57) (io), 143 IO/DEV_OE (53) (io), 148 VCCIO7 (power), 181 IO/DATA5 (334) (io), 182 IO (333) (io), 183 IO (332) (io), 184 IO (331) (io), 185 IO/DATA4 (330) (io), 186 IO (328) (io), 187 IO (327) (io), 189 IO/DATA3 (326) (io), 190 IO (325) (io), 191 IO (323) (io), 192 IO (321) (io), 193 IO (320) (io), 194 IO (319) (io), 195 IO/DATA2 (317) (io), 196 IO (316) (io), 197 IO (315) (io), 198 IO (314) (io), 199 VCCIO1 (power), 200 IO/DATA1 (310) (io), 201 IO (309) (io), 202 IO (308) (io), 203 IO (307) (io), 204 IO/CLKUSR (306) (io), 205 IO/RDYnBSY (304) (io), 206 IO/INIT_DONE (303) (io), 207 IO (302) (io), 209 FAST2 (299) (io), 212 FAST1 (292) (io)
part B pins: 31 CLK1p (210) (in), 34 CLK3p (205) (in), 35 IO (203) (io), 36 IO (200) (io), 37 IO (198) (io), 38 IO (197) (io), 39 IO (196) (io), 40 IO (194) (io), 41 IO (193) (io), 43 IO (192) (io), 44 IO (190) (io), 45 VCCIO4 (power), 46 IO (188) (io), 47 IO (187) (io), 48 IO (186) (io), 49 IO (185) (io), 50 IO (184) (io), 51 IO (182) (io), 52 IO (181) (io), 53 IO (180) (io), 54 IO (179) (io), 55 IO (178) (io), 57 IO (175) (io), 58 IO (173) (io), 59 IO (172) (io), 94 IO (122) (io), 95 IO (120) (io), 96 IO (119) (io), 97 VCCIO6 (power), 98 IO (117) (io), 99 IO (116) (io), 100 IO (115) (io), 101 IO (113) (io), 102 IO (112) (io), 103 IO (109) (io), 104 IO (108) (io), 105 IO (107) (io), 106 IO (106) (io), 107 IO (105) (io), 109 IO (103) (io), 110 IO (102) (io), 111 IO (101) (io), 112 IO (99) (io), 113 IO (98) (io), 114 IO (97) (io), 115 IO (95) (io), 116 IO (93) (io), 117 IO (92) (io), 118 IO (91) (io), 119 IO (90) (io), 120 VCCIO6 (power), 151 CLK2p (45) (in), 154 CLK4p (41) (in), 156 IO/DEV_CLRn (36) (io), 157 IO/CS (35) (io), 160 IO/nCS (29) (io), 161 IO/nRS (28) (io), 163 IO (27) (io), 164 IO/nWS (25) (io), 166 IO/DATA7 (23) (io), 167 IO (21) (io), 168 IO (20) (io), 169 IO/DATA6 (17) (io), 170 IO (15) (io), 171 IO (13) (io), 172 IO (11) (io), 173 IO (10) (io), 174 IO (9) (io), 175 IO (8) (io), 176 IO (7) (io), 177 VCCIO8 (power), 178 IO (2) (io), 180 IO (1) (io), 215 IO (289) (io), 216 IO (288) (io), 217 IO (287) (io), 219 IO (284) (io), 220 IO (282) (io), 221 IO (281) (io), 222 IO (280) (io), 223 IO (279) (io), 224 IO (277) (io), 225 IO (276) (io), 226 IO (275) (io), 227 IO (274) (io), 228 IO (272) (io), 229 VCCIO2 (power), 230 IO (269) (io), 231 IO (268) (io), 232 IO (267) (io), 233 IO (265) (io), 234 IO (264) (io), 235 IO (262) (io), 236 IO (260) (io), 237 IO (258) (io), 238 IO (257) (io), 239 IO (256) (io)
part C pins: 29 MSEL0 (212) (in), 30 MSEL1 (211) (in), 32 CLKLK_ENA (209) (in), 33 nCONFIG (208) (in), 86 TMS (136) (in), 87 TCK (135) (in), 92 nSTATUS (124) (io), 93 CONF_DONE (123) (io), 139 CLKLK_OUT2p (59) (out), 149 TDI (47) (in), 150 nCE (46) (in), 152 DCLK (44) (in), 153 DATA0 (43) (in), 155 CLKLK_FB2p (39) (in), 208 TDO (300) (out), 213 nCEO (291) (out), 214 TRST (290) (in)
part D pins: 1 VCCINT (power), 19 GND (power), 26 GND (power), 27 VCCINT (power), 28 GND (power), 42 GND (power), 56 GND (power), 60 VCCINT (power), 78 GND (power), 89 GND (power), 90 VCCINT (power), 108 GND (power), 122 VCCINT (power), 132 GND (power), 137 GND (power), 141 GND_CKOUT2 (55) (power), 142 VCC_CKOUT2 (54) (power), 144 VCC_CKLK2 (52) (power), 145 VCCINT (power), 146 GND (power), 147 GND_CKLK2 (49/50) (power), 158 GND_CKLK4 (32/33) (power), 159 VCC_CKLK4 (31) (power), 162 GND (power), 165 GND (power), 179 VCCINT (power), 188 GND (power), 210 VCCINT (power), 211 GND (power), 218 GND (power), 240 GND (power)

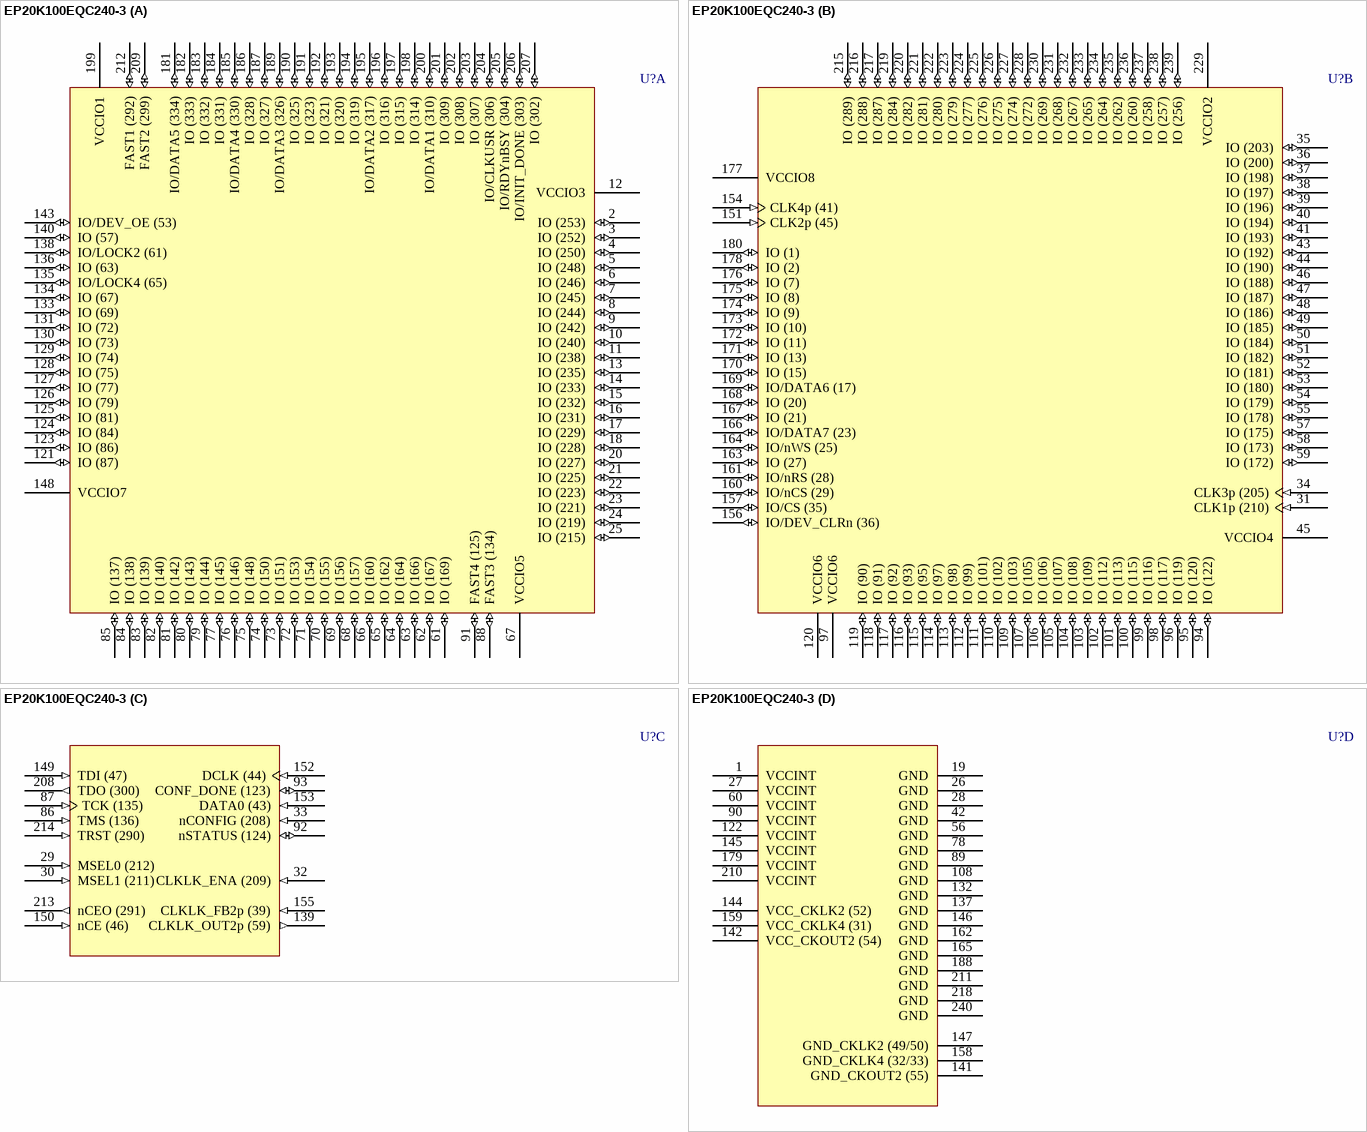
[diagram p106: symbol EP20K100EQC240-3]

## EP20K100EQC240-3
designator U?
APEX 20K100E PLD, 240-Pin PQFP, Commercial Grade, Speed Grade 3; Published: 17-Jul-2002; LatestRevisionDate: 13-Apr-2006; LatestRevisionNote: IPC-7351 Footprint Added.; DatasheetVersion: Mar-2004; PackageVersion: ver14.1, Oct-2005; PackageReference: PQFP240; Publisher: Altium Limited; PackageDescription: 240-Pin Plastic Quad Flat Pack (PQFP240); Code_JEDEC: MS-029-GA; ComponentLink1Description: Manufacturer Link; ComponentLink1URL: http://www.altera.com/products/devices/apex/apx-index.html; ComponentLink2Description: Datasheet; ComponentLink2URL: http://www.altera.com/literature/ds/apex.pdf
footprint PQFP240_N (Shrink QFP, 240-Leads, Body 32x32mm, Pitch 0.5mm, IPC Medium Density)
footprint PQFP240_L (Shrink QFP, 240-Leads, Body 32x32mm, Pitch 0.5mm, IPC High Density)
footprint PQFP240_M (Shrink QFP, 240-Leads, Body 32x32mm, Pitch 0.5mm, IPC Low Density)
3D model EP20K100E-PQFP240 (240-Pin Plastic Quad Flat Pack (PQFP240))
part A pins: 2 IO (253) (io), 3 IO (252) (io), 4 IO (250) (io), 5 IO (248) (io), 6 IO (246) (io), 7 IO (245) (io), 8 IO (244) (io), 9 IO (242) (io), 10 IO (240) (io), 11 IO (238) (io), 12 VCCIO3 (power), 13 IO (235) (io), 14 IO (233) (io), 15 IO (232) (io), 16 IO (231) (io), 17 IO (229) (io), 18 IO (228) (io), 20 IO (227) (io), 21 IO (225) (io), 22 IO (223) (io), 23 IO (221) (io), 24 IO (219) (io), 25 IO (215) (io), 61 IO (169) (io), 62 IO (167) (io), 63 IO (166) (io), 64 IO (164) (io), 65 IO (162) (io), 66 IO (160) (io), 67 VCCIO5 (power), 68 IO (157) (io), 69 IO (156) (io), 70 IO (155) (io), 71 IO (154) (io), 72 IO (153) (io), 73 IO (151) (io), 74 IO (150) (io), 75 IO (148) (io), 76 IO (146) (io), 77 IO (145) (io), 79 IO (144) (io), 80 IO (143) (io), 81 IO (142) (io), 82 IO (140) (io), 83 IO (139) (io), 84 IO (138) (io), 85 IO (137) (io), 88 FAST3 (134) (io), 91 FAST4 (125) (io), 121 IO (87) (io), 123 IO (86) (io), 124 IO (84) (io), 125 IO (81) (io), 126 IO (79) (io), 127 IO (77) (io), 128 IO (75) (io), 129 IO (74) (io), 130 IO (73) (io), 131 IO (72) (io), 133 IO (69) (io), 134 IO (67) (io), 135 IO/LOCK4 (65) (io), 136 IO (63) (io), 138 IO/LOCK2 (61) (io), 140 IO (57) (io), 143 IO/DEV_OE (53) (io), 148 VCCIO7 (power), 181 IO/DATA5 (334) (io), 182 IO (333) (io), 183 IO (332) (io), 184 IO (331) (io), 185 IO/DATA4 (330) (io), 186 IO (328) (io), 187 IO (327) (io), 189 IO/DATA3 (326) (io), 190 IO (325) (io), 191 IO (323) (io), 192 IO (321) (io), 193 IO (320) (io), 194 IO (319) (io), 195 IO/DATA2 (317) (io), 196 IO (316) (io), 197 IO (315) (io), 198 IO (314) (io), 199 VCCIO1 (power), 200 IO/DATA1 (310) (io), 201 IO (309) (io), 202 IO (308) (io), 203 IO (307) (io), 204 IO/CLKUSR (306) (io), 205 IO/RDYnBSY (304) (io), 206 IO/INIT_DONE (303) (io), 207 IO (302) (io), 209 FAST2 (299) (io), 212 FAST1 (292) (io)
part B pins: 31 CLK1p (210) (in), 34 CLK3p (205) (in), 35 IO (203) (io), 36 IO (200) (io), 37 IO (198) (io), 38 IO (197) (io), 39 IO (196) (io), 40 IO (194) (io), 41 IO (193) (io), 43 IO (192) (io), 44 IO (190) (io), 45 VCCIO4 (power), 46 IO (188) (io), 47 IO (187) (io), 48 IO (186) (io), 49 IO (185) (io), 50 IO (184) (io), 51 IO (182) (io), 52 IO (181) (io), 53 IO (180) (io), 54 IO (179) (io), 55 IO (178) (io), 57 IO (175) (io), 58 IO (173) (io), 59 IO (172) (io), 94 IO (122) (io), 95 IO (120) (io), 96 IO (119) (io), 97 VCCIO6 (power), 98 IO (117) (io), 99 IO (116) (io), 100 IO (115) (io), 101 IO (113) (io), 102 IO (112) (io), 103 IO (109) (io), 104 IO (108) (io), 105 IO (107) (io), 106 IO (106) (io), 107 IO (105) (io), 109 IO (103) (io), 110 IO (102) (io), 111 IO (101) (io), 112 IO (99) (io), 113 IO (98) (io), 114 IO (97) (io), 115 IO (95) (io), 116 IO (93) (io), 117 IO (92) (io), 118 IO (91) (io), 119 IO (90) (io), 120 VCCIO6 (power), 151 CLK2p (45) (in), 154 CLK4p (41) (in), 156 IO/DEV_CLRn (36) (io), 157 IO/CS (35) (io), 160 IO/nCS (29) (io), 161 IO/nRS (28) (io), 163 IO (27) (io), 164 IO/nWS (25) (io), 166 IO/DATA7 (23) (io), 167 IO (21) (io), 168 IO (20) (io), 169 IO/DATA6 (17) (io), 170 IO (15) (io), 171 IO (13) (io), 172 IO (11) (io), 173 IO (10) (io), 174 IO (9) (io), 175 IO (8) (io), 176 IO (7) (io), 177 VCCIO8 (power), 178 IO (2) (io), 180 IO (1) (io), 215 IO (289) (io), 216 IO (288) (io), 217 IO (287) (io), 219 IO (284) (io), 220 IO (282) (io), 221 IO (281) (io), 222 IO (280) (io), 223 IO (279) (io), 224 IO (277) (io), 225 IO (276) (io), 226 IO (275) (io), 227 IO (274) (io), 228 IO (272) (io), 229 VCCIO2 (power), 230 IO (269) (io), 231 IO (268) (io), 232 IO (267) (io), 233 IO (265) (io), 234 IO (264) (io), 235 IO (262) (io), 236 IO (260) (io), 237 IO (258) (io), 238 IO (257) (io), 239 IO (256) (io)
part C pins: 29 MSEL0 (212) (in), 30 MSEL1 (211) (in), 32 CLKLK_ENA (209) (in), 33 nCONFIG (208) (in), 86 TMS (136) (in), 87 TCK (135) (in), 92 nSTATUS (124) (io), 93 CONF_DONE (123) (io), 139 CLKLK_OUT2p (59) (out), 149 TDI (47) (in), 150 nCE (46) (in), 152 DCLK (44) (in), 153 DATA0 (43) (in), 155 CLKLK_FB2p (39) (in), 208 TDO (300) (out), 213 nCEO (291) (out), 214 TRST (290) (in)
part D pins: 1 VCCINT (power), 19 GND (power), 26 GND (power), 27 VCCINT (power), 28 GND (power), 42 GND (power), 56 GND (power), 60 VCCINT (power), 78 GND (power), 89 GND (power), 90 VCCINT (power), 108 GND (power), 122 VCCINT (power), 132 GND (power), 137 GND (power), 141 GND_CKOUT2 (55) (power), 142 VCC_CKOUT2 (54) (power), 144 VCC_CKLK2 (52) (power), 145 VCCINT (power), 146 GND (power), 147 GND_CKLK2 (49/50) (power), 158 GND_CKLK4 (32/33) (power), 159 VCC_CKLK4 (31) (power), 162 GND (power), 165 GND (power), 179 VCCINT (power), 188 GND (power), 210 VCCINT (power), 211 GND (power), 218 GND (power), 240 GND (power)

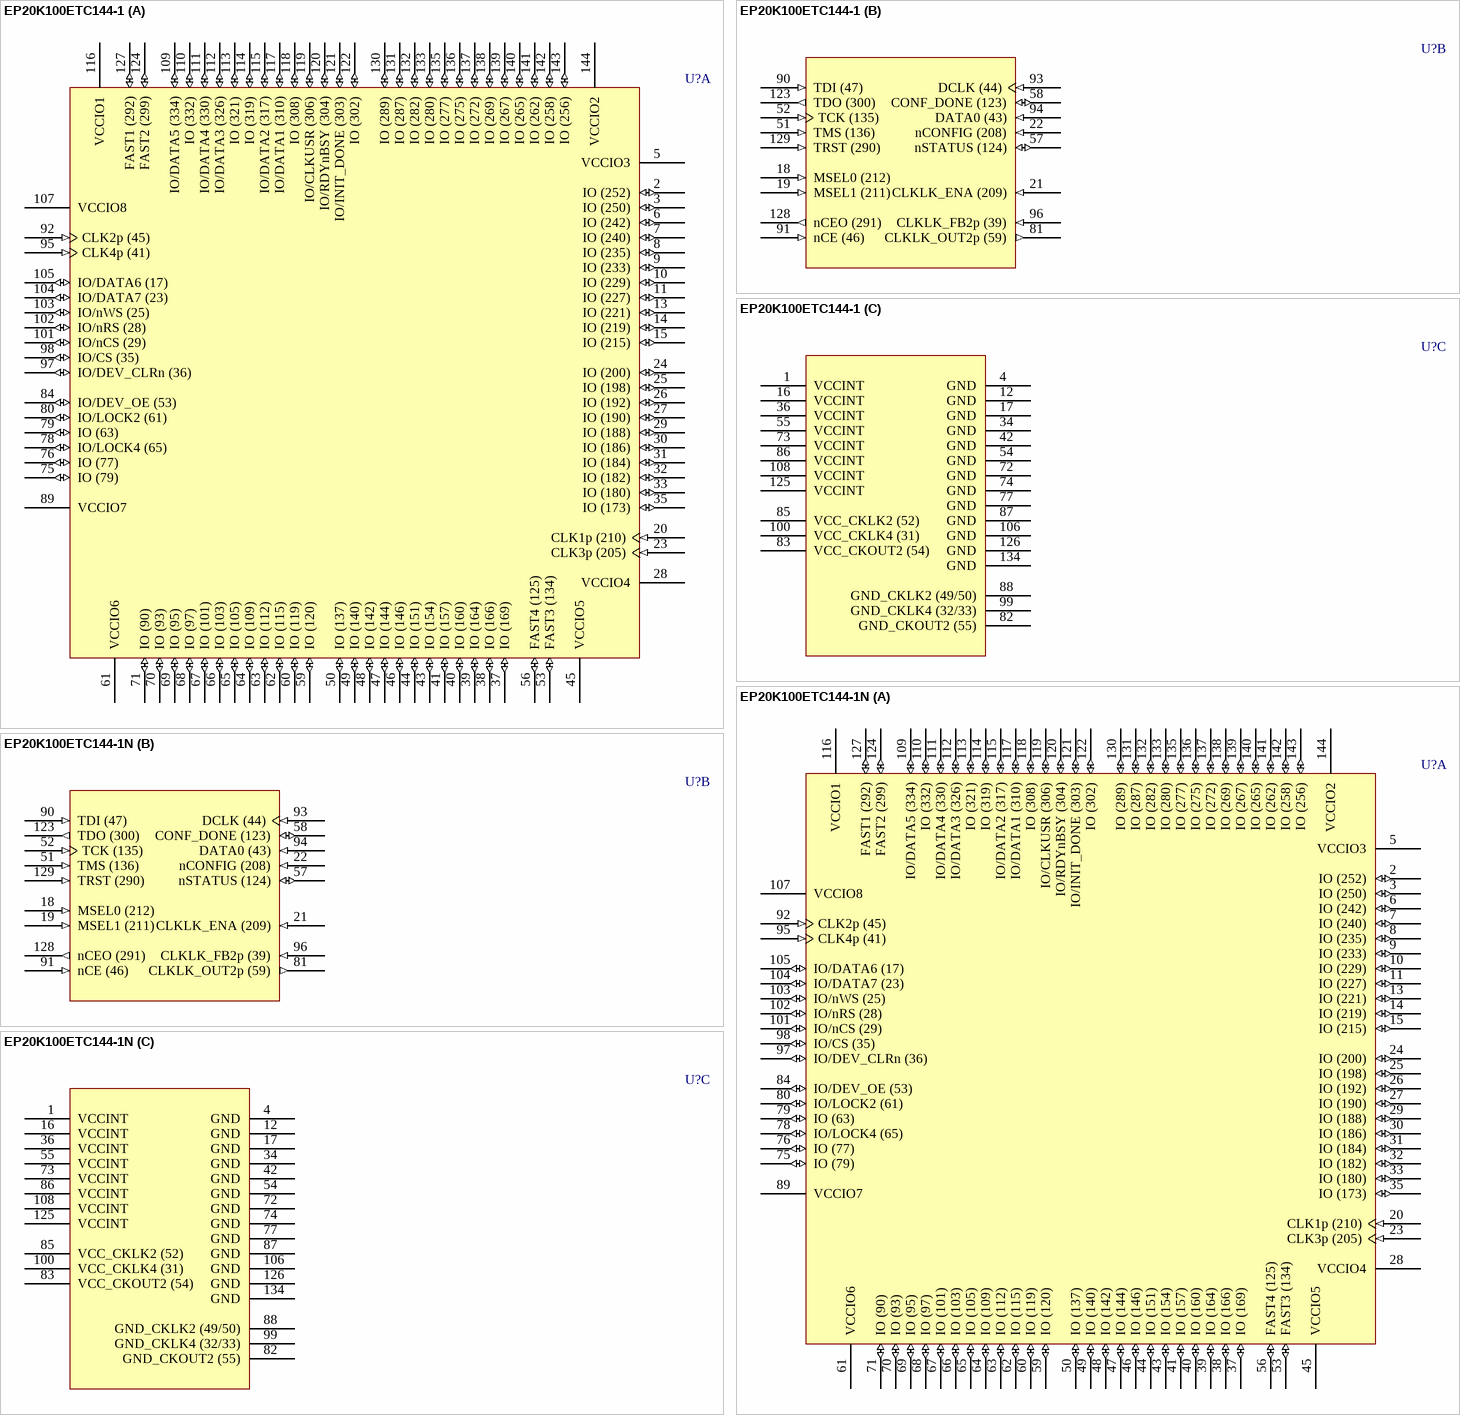
[diagram p107: symbols EP20K100ETC144-1 to EP20K100ETC144-1N]

## EP20K100ETC144-1
designator U?
APEX 20K100E PLD, 144-Pin TQFP, Commercial Grade, Speed Grade 1; Published: 17-Jul-2002; LatestRevisionDate: 13-Apr-2006; LatestRevisionNote: IPC-7351 Footprint Added.; DatasheetVersion: Mar-2004; PackageVersion: ver14.1, Oct-2005; PackageReference: TQFP144; Publisher: Altium Limited; PackageDescription: 144-Pin Plastic Thin Quad Flat Pack (TQFP144); Code_JEDEC: MS-026-BFB; ComponentLink1Description: Manufacturer Link; ComponentLink1URL: http://www.altera.com/products/devices/apex/apx-index.html; ComponentLink2Description: Datasheet; ComponentLink2URL: http://www.altera.com/literature/ds/apex.pdf
footprint TQFP144_N (Thin QFP, 144-Leads, Body 20x20mm, Pitch 0.5mm, IPC Medium Density)
footprint TQFP144_L (Thin QFP, 144-Leads, Body 20x20mm, Pitch 0.5mm, IPC High Density)
footprint TQFP144_M (Thin QFP, 144-Leads, Body 20x20mm, Pitch 0.5mm, IPC Low Density)
3D model EP20K100E-TQFP144 (144-Pin Plastic Thin Quad Flat Pack (TQFP144))
part A pins: 2 IO (252) (io), 3 IO (250) (io), 5 VCCIO3 (power), 6 IO (242) (io), 7 IO (240) (io), 8 IO (235) (io), 9 IO (233) (io), 10 IO (229) (io), 11 IO (227) (io), 13 IO (221) (io), 14 IO (219) (io), 15 IO (215) (io), 20 CLK1p (210) (in), 23 CLK3p (205) (in), 24 IO (200) (io), 25 IO (198) (io), 26 IO (192) (io), 27 IO (190) (io), 28 VCCIO4 (power), 29 IO (188) (io), 30 IO (186) (io), 31 IO (184) (io), 32 IO (182) (io), 33 IO (180) (io), 35 IO (173) (io), 37 IO (169) (io), 38 IO (166) (io), 39 IO (164) (io), 40 IO (160) (io), 41 IO (157) (io), 43 IO (154) (io), 44 IO (151) (io), 45 VCCIO5 (power), 46 IO (146) (io), 47 IO (144) (io), 48 IO (142) (io), 49 IO (140) (io), 50 IO (137) (io), 53 FAST3 (134) (io), 56 FAST4 (125) (io), 59 IO (120) (io), 60 IO (119) (io), 61 VCCIO6 (power), 62 IO (115) (io), 63 IO (112) (io), 64 IO (109) (io), 65 IO (105) (io), 66 IO (103) (io), 67 IO (101) (io), 68 IO (97) (io), 69 IO (95) (io), 70 IO (93) (io), 71 IO (90) (io), 75 IO (79) (io), 76 IO (77) (io), 78 IO/LOCK4 (65) (io), 79 IO (63) (io), 80 IO/LOCK2 (61) (io), 84 IO/DEV_OE (53) (io), 89 VCCIO7 (power), 92 CLK2p (45) (in), 95 CLK4p (41) (in), 97 IO/DEV_CLRn (36) (io), 98 IO/CS (35) (io), 101 IO/nCS (29) (io), 102 IO/nRS (28) (io), 103 IO/nWS (25) (io), 104 IO/DATA7 (23) (io), 105 IO/DATA6 (17) (io), 107 VCCIO8 (power), 109 IO/DATA5 (334) (io), 110 IO (332) (io), 111 IO/DATA4 (330) (io), 112 IO/DATA3 (326) (io), 113 IO (321) (io), 114 IO (319) (io), 115 IO/DATA2 (317) (io), 116 VCCIO1 (power), 117 IO/DATA1 (310) (io), 118 IO (308) (io), 119 IO/CLKUSR (306) (io), 120 IO/RDYnBSY (304) (io), 121 IO/INIT_DONE (303) (io), 122 IO (302) (io), 124 FAST2 (299) (io), 127 FAST1 (292) (io), 130 IO (289) (io), 131 IO (287) (io), 132 IO (282) (io), 133 IO (280) (io), 135 IO (277) (io), 136 IO (275) (io), 137 IO (272) (io), 138 IO (269) (io), 139 IO (267) (io), 140 IO (265) (io), 141 IO (262) (io), 142 IO (258) (io), 143 IO (256) (io), 144 VCCIO2 (power)
part B pins: 18 MSEL0 (212) (in), 19 MSEL1 (211) (in), 21 CLKLK_ENA (209) (in), 22 nCONFIG (208) (in), 51 TMS (136) (in), 52 TCK (135) (in), 57 nSTATUS (124) (io), 58 CONF_DONE (123) (io), 81 CLKLK_OUT2p (59) (out), 90 TDI (47) (in), 91 nCE (46) (in), 93 DCLK (44) (in), 94 DATA0 (43) (in), 96 CLKLK_FB2p (39) (in), 123 TDO (300) (out), 128 nCEO (291) (out), 129 TRST (290) (in)
part C pins: 1 VCCINT (power), 4 GND (power), 12 GND (power), 16 VCCINT (power), 17 GND (power), 34 GND (power), 36 VCCINT (power), 42 GND (power), 54 GND (power), 55 VCCINT (power), 72 GND (power), 73 VCCINT (power), 74 GND (power), 77 GND (power), 82 GND_CKOUT2 (55) (power), 83 VCC_CKOUT2 (54) (power), 85 VCC_CKLK2 (52) (power), 86 VCCINT (power), 87 GND (power), 88 GND_CKLK2 (49/50) (power), 99 GND_CKLK4 (32/33) (power), 100 VCC_CKLK4 (31) (power), 106 GND (power), 108 VCCINT (power), 125 VCCINT (power), 126 GND (power), 134 GND (power)

## EP20K100ETC144-1N
designator U?
APEX 20K100E PLD, 144-Pin TQFP, Pb-Free, Commercial Grade, Speed Grade 1; Published: 4-Mar-2005; LatestRevisionDate: 13-Apr-2006; LatestRevisionNote: IPC-7351 Footprint Added.; DatasheetVersion: Mar-2004; PackageVersion: ver14.1, Oct-2005; PackageReference: TQFP144; Publisher: Altium Limited; PackageDescription: 144-Pin Plastic Thin Quad Flat Pack (TQFP144); Code_JEDEC: MS-026-BFB; ComponentLink1Description: Manufacturer Link; ComponentLink1URL: http://www.altera.com/products/devices/apex/apx-index.html; ComponentLink2Description: Datasheet; ComponentLink2URL: http://www.altera.com/literature/ds/apex.pdf
footprint TQFP144_N (Thin QFP, 144-Leads, Body 20x20mm, Pitch 0.5mm, IPC Medium Density)
footprint TQFP144_L (Thin QFP, 144-Leads, Body 20x20mm, Pitch 0.5mm, IPC High Density)
footprint TQFP144_M (Thin QFP, 144-Leads, Body 20x20mm, Pitch 0.5mm, IPC Low Density)
3D model EP20K100E-TQFP144 (144-Pin Plastic Thin Quad Flat Pack (TQFP144))
part A pins: 2 IO (252) (io), 3 IO (250) (io), 5 VCCIO3 (power), 6 IO (242) (io), 7 IO (240) (io), 8 IO (235) (io), 9 IO (233) (io), 10 IO (229) (io), 11 IO (227) (io), 13 IO (221) (io), 14 IO (219) (io), 15 IO (215) (io), 20 CLK1p (210) (in), 23 CLK3p (205) (in), 24 IO (200) (io), 25 IO (198) (io), 26 IO (192) (io), 27 IO (190) (io), 28 VCCIO4 (power), 29 IO (188) (io), 30 IO (186) (io), 31 IO (184) (io), 32 IO (182) (io), 33 IO (180) (io), 35 IO (173) (io), 37 IO (169) (io), 38 IO (166) (io), 39 IO (164) (io), 40 IO (160) (io), 41 IO (157) (io), 43 IO (154) (io), 44 IO (151) (io), 45 VCCIO5 (power), 46 IO (146) (io), 47 IO (144) (io), 48 IO (142) (io), 49 IO (140) (io), 50 IO (137) (io), 53 FAST3 (134) (io), 56 FAST4 (125) (io), 59 IO (120) (io), 60 IO (119) (io), 61 VCCIO6 (power), 62 IO (115) (io), 63 IO (112) (io), 64 IO (109) (io), 65 IO (105) (io), 66 IO (103) (io), 67 IO (101) (io), 68 IO (97) (io), 69 IO (95) (io), 70 IO (93) (io), 71 IO (90) (io), 75 IO (79) (io), 76 IO (77) (io), 78 IO/LOCK4 (65) (io), 79 IO (63) (io), 80 IO/LOCK2 (61) (io), 84 IO/DEV_OE (53) (io), 89 VCCIO7 (power), 92 CLK2p (45) (in), 95 CLK4p (41) (in), 97 IO/DEV_CLRn (36) (io), 98 IO/CS (35) (io), 101 IO/nCS (29) (io), 102 IO/nRS (28) (io), 103 IO/nWS (25) (io), 104 IO/DATA7 (23) (io), 105 IO/DATA6 (17) (io), 107 VCCIO8 (power), 109 IO/DATA5 (334) (io), 110 IO (332) (io), 111 IO/DATA4 (330) (io), 112 IO/DATA3 (326) (io), 113 IO (321) (io), 114 IO (319) (io), 115 IO/DATA2 (317) (io), 116 VCCIO1 (power), 117 IO/DATA1 (310) (io), 118 IO (308) (io), 119 IO/CLKUSR (306) (io), 120 IO/RDYnBSY (304) (io), 121 IO/INIT_DONE (303) (io), 122 IO (302) (io), 124 FAST2 (299) (io), 127 FAST1 (292) (io), 130 IO (289) (io), 131 IO (287) (io), 132 IO (282) (io), 133 IO (280) (io), 135 IO (277) (io), 136 IO (275) (io), 137 IO (272) (io), 138 IO (269) (io), 139 IO (267) (io), 140 IO (265) (io), 141 IO (262) (io), 142 IO (258) (io), 143 IO (256) (io), 144 VCCIO2 (power)
part B pins: 18 MSEL0 (212) (in), 19 MSEL1 (211) (in), 21 CLKLK_ENA (209) (in), 22 nCONFIG (208) (in), 51 TMS (136) (in), 52 TCK (135) (in), 57 nSTATUS (124) (io), 58 CONF_DONE (123) (io), 81 CLKLK_OUT2p (59) (out), 90 TDI (47) (in), 91 nCE (46) (in), 93 DCLK (44) (in), 94 DATA0 (43) (in), 96 CLKLK_FB2p (39) (in), 123 TDO (300) (out), 128 nCEO (291) (out), 129 TRST (290) (in)
part C pins: 1 VCCINT (power), 4 GND (power), 12 GND (power), 16 VCCINT (power), 17 GND (power), 34 GND (power), 36 VCCINT (power), 42 GND (power), 54 GND (power), 55 VCCINT (power), 72 GND (power), 73 VCCINT (power), 74 GND (power), 77 GND (power), 82 GND_CKOUT2 (55) (power), 83 VCC_CKOUT2 (54) (power), 85 VCC_CKLK2 (52) (power), 86 VCCINT (power), 87 GND (power), 88 GND_CKLK2 (49/50) (power), 99 GND_CKLK4 (32/33) (power), 100 VCC_CKLK4 (31) (power), 106 GND (power), 108 VCCINT (power), 125 VCCINT (power), 126 GND (power), 134 GND (power)

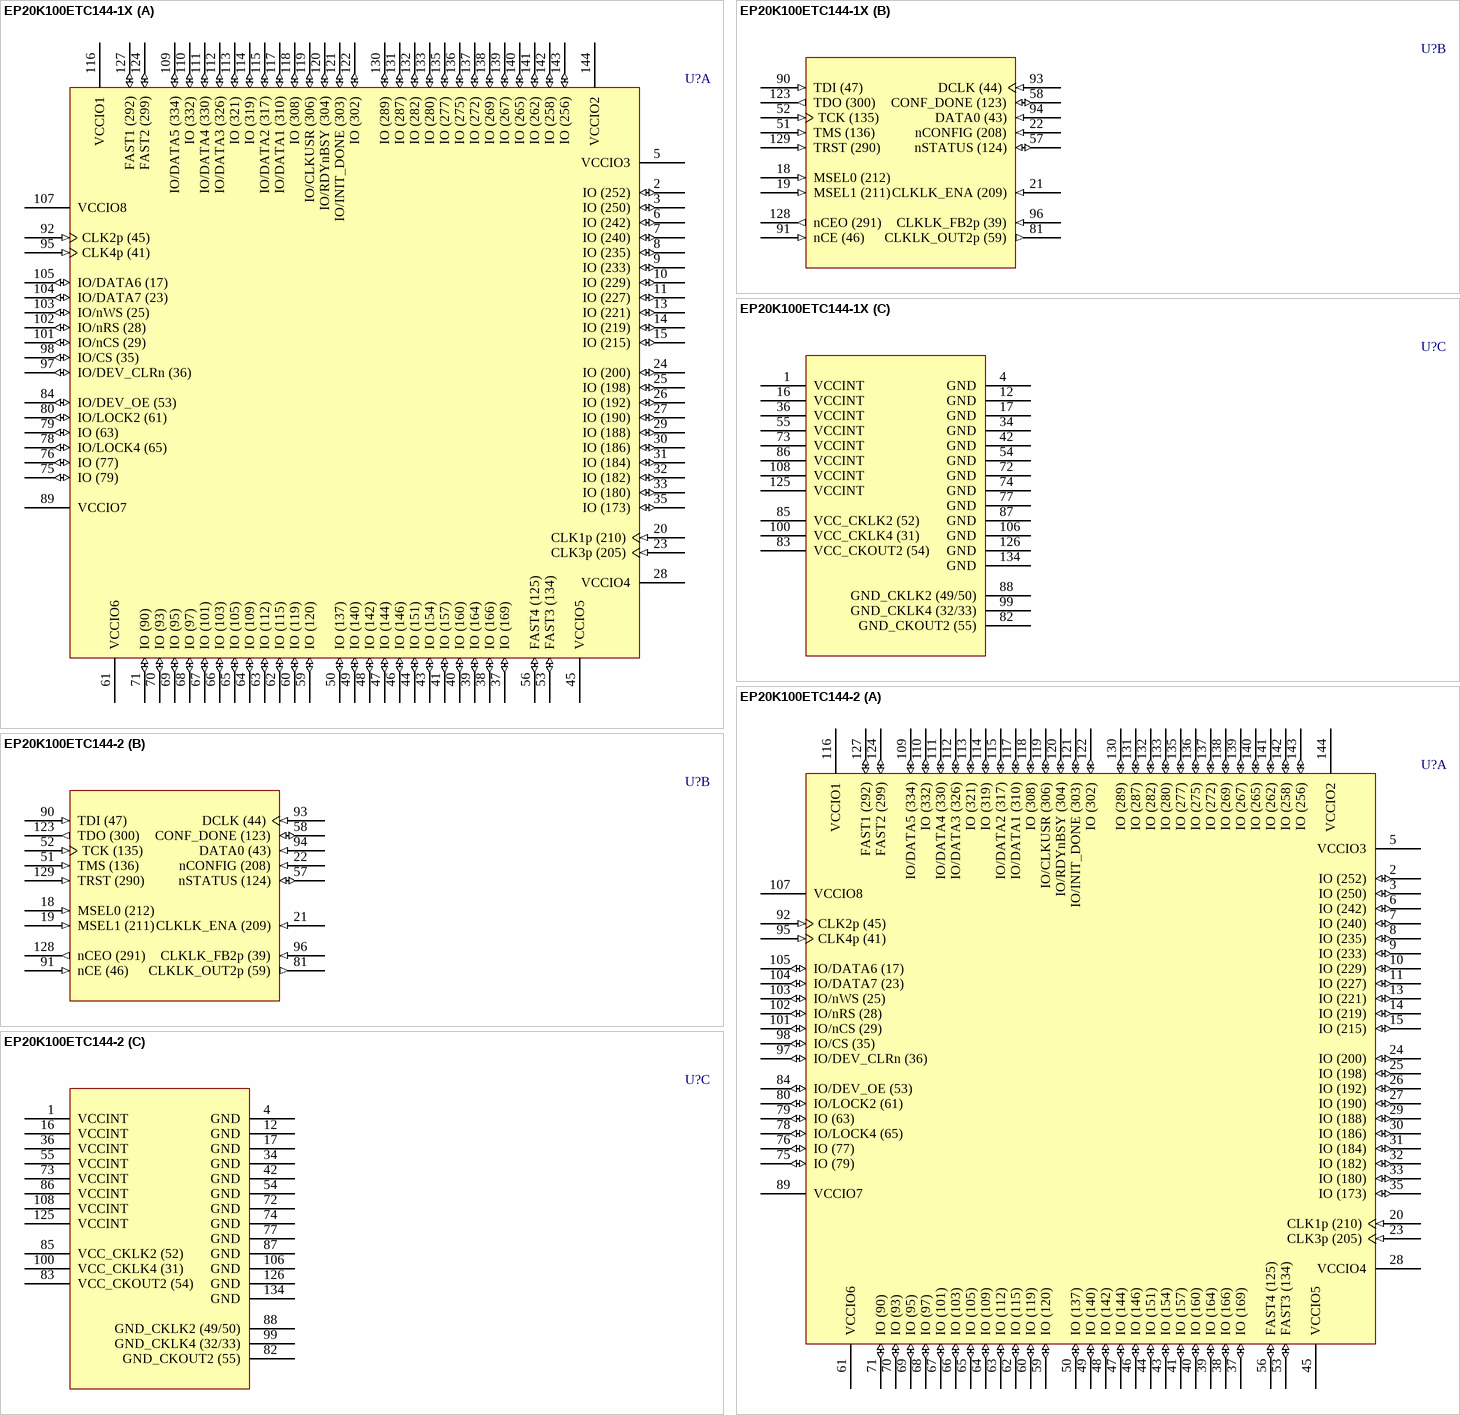
[diagram p108: symbols EP20K100ETC144-1X to EP20K100ETC144-2]

## EP20K100ETC144-1X
designator U?
APEX 20K100E PLD with PLLs and LVDS, 144-Pin TQFP, Commercial Grade, Speed Grade 1; Published: 17-Jul-2002; LatestRevisionDate: 13-Apr-2006; LatestRevisionNote: IPC-7351 Footprint Added.; DatasheetVersion: Mar-2004; PackageVersion: ver14.1, Oct-2005; PackageReference: TQFP144; Publisher: Altium Limited; PackageDescription: 144-Pin Plastic Thin Quad Flat Pack (TQFP144); Code_JEDEC: MS-026-BFB; ComponentLink1Description: Manufacturer Link; ComponentLink1URL: http://www.altera.com/products/devices/apex/apx-index.html; ComponentLink2Description: Datasheet; ComponentLink2URL: http://www.altera.com/literature/ds/apex.pdf
footprint TQFP144_N (Thin QFP, 144-Leads, Body 20x20mm, Pitch 0.5mm, IPC Medium Density)
footprint TQFP144_L (Thin QFP, 144-Leads, Body 20x20mm, Pitch 0.5mm, IPC High Density)
footprint TQFP144_M (Thin QFP, 144-Leads, Body 20x20mm, Pitch 0.5mm, IPC Low Density)
3D model EP20K100E-TQFP144 (144-Pin Plastic Thin Quad Flat Pack (TQFP144))
part A pins: 2 IO (252) (io), 3 IO (250) (io), 5 VCCIO3 (power), 6 IO (242) (io), 7 IO (240) (io), 8 IO (235) (io), 9 IO (233) (io), 10 IO (229) (io), 11 IO (227) (io), 13 IO (221) (io), 14 IO (219) (io), 15 IO (215) (io), 20 CLK1p (210) (in), 23 CLK3p (205) (in), 24 IO (200) (io), 25 IO (198) (io), 26 IO (192) (io), 27 IO (190) (io), 28 VCCIO4 (power), 29 IO (188) (io), 30 IO (186) (io), 31 IO (184) (io), 32 IO (182) (io), 33 IO (180) (io), 35 IO (173) (io), 37 IO (169) (io), 38 IO (166) (io), 39 IO (164) (io), 40 IO (160) (io), 41 IO (157) (io), 43 IO (154) (io), 44 IO (151) (io), 45 VCCIO5 (power), 46 IO (146) (io), 47 IO (144) (io), 48 IO (142) (io), 49 IO (140) (io), 50 IO (137) (io), 53 FAST3 (134) (io), 56 FAST4 (125) (io), 59 IO (120) (io), 60 IO (119) (io), 61 VCCIO6 (power), 62 IO (115) (io), 63 IO (112) (io), 64 IO (109) (io), 65 IO (105) (io), 66 IO (103) (io), 67 IO (101) (io), 68 IO (97) (io), 69 IO (95) (io), 70 IO (93) (io), 71 IO (90) (io), 75 IO (79) (io), 76 IO (77) (io), 78 IO/LOCK4 (65) (io), 79 IO (63) (io), 80 IO/LOCK2 (61) (io), 84 IO/DEV_OE (53) (io), 89 VCCIO7 (power), 92 CLK2p (45) (in), 95 CLK4p (41) (in), 97 IO/DEV_CLRn (36) (io), 98 IO/CS (35) (io), 101 IO/nCS (29) (io), 102 IO/nRS (28) (io), 103 IO/nWS (25) (io), 104 IO/DATA7 (23) (io), 105 IO/DATA6 (17) (io), 107 VCCIO8 (power), 109 IO/DATA5 (334) (io), 110 IO (332) (io), 111 IO/DATA4 (330) (io), 112 IO/DATA3 (326) (io), 113 IO (321) (io), 114 IO (319) (io), 115 IO/DATA2 (317) (io), 116 VCCIO1 (power), 117 IO/DATA1 (310) (io), 118 IO (308) (io), 119 IO/CLKUSR (306) (io), 120 IO/RDYnBSY (304) (io), 121 IO/INIT_DONE (303) (io), 122 IO (302) (io), 124 FAST2 (299) (io), 127 FAST1 (292) (io), 130 IO (289) (io), 131 IO (287) (io), 132 IO (282) (io), 133 IO (280) (io), 135 IO (277) (io), 136 IO (275) (io), 137 IO (272) (io), 138 IO (269) (io), 139 IO (267) (io), 140 IO (265) (io), 141 IO (262) (io), 142 IO (258) (io), 143 IO (256) (io), 144 VCCIO2 (power)
part B pins: 18 MSEL0 (212) (in), 19 MSEL1 (211) (in), 21 CLKLK_ENA (209) (in), 22 nCONFIG (208) (in), 51 TMS (136) (in), 52 TCK (135) (in), 57 nSTATUS (124) (io), 58 CONF_DONE (123) (io), 81 CLKLK_OUT2p (59) (out), 90 TDI (47) (in), 91 nCE (46) (in), 93 DCLK (44) (in), 94 DATA0 (43) (in), 96 CLKLK_FB2p (39) (in), 123 TDO (300) (out), 128 nCEO (291) (out), 129 TRST (290) (in)
part C pins: 1 VCCINT (power), 4 GND (power), 12 GND (power), 16 VCCINT (power), 17 GND (power), 34 GND (power), 36 VCCINT (power), 42 GND (power), 54 GND (power), 55 VCCINT (power), 72 GND (power), 73 VCCINT (power), 74 GND (power), 77 GND (power), 82 GND_CKOUT2 (55) (power), 83 VCC_CKOUT2 (54) (power), 85 VCC_CKLK2 (52) (power), 86 VCCINT (power), 87 GND (power), 88 GND_CKLK2 (49/50) (power), 99 GND_CKLK4 (32/33) (power), 100 VCC_CKLK4 (31) (power), 106 GND (power), 108 VCCINT (power), 125 VCCINT (power), 126 GND (power), 134 GND (power)

## EP20K100ETC144-2
designator U?
APEX 20K100E PLD, 144-Pin TQFP, Commercial Grade, Speed Grade 2; Published: 17-Jul-2002; LatestRevisionDate: 13-Apr-2006; LatestRevisionNote: IPC-7351 Footprint Added.; DatasheetVersion: Mar-2004; PackageVersion: ver14.1, Oct-2005; PackageReference: TQFP144; Publisher: Altium Limited; PackageDescription: 144-Pin Plastic Thin Quad Flat Pack (TQFP144); Code_JEDEC: MS-026-BFB; ComponentLink1Description: Manufacturer Link; ComponentLink1URL: http://www.altera.com/products/devices/apex/apx-index.html; ComponentLink2Description: Datasheet; ComponentLink2URL: http://www.altera.com/literature/ds/apex.pdf
footprint TQFP144_N (Thin QFP, 144-Leads, Body 20x20mm, Pitch 0.5mm, IPC Medium Density)
footprint TQFP144_L (Thin QFP, 144-Leads, Body 20x20mm, Pitch 0.5mm, IPC High Density)
footprint TQFP144_M (Thin QFP, 144-Leads, Body 20x20mm, Pitch 0.5mm, IPC Low Density)
3D model EP20K100E-TQFP144 (144-Pin Plastic Thin Quad Flat Pack (TQFP144))
part A pins: 2 IO (252) (io), 3 IO (250) (io), 5 VCCIO3 (power), 6 IO (242) (io), 7 IO (240) (io), 8 IO (235) (io), 9 IO (233) (io), 10 IO (229) (io), 11 IO (227) (io), 13 IO (221) (io), 14 IO (219) (io), 15 IO (215) (io), 20 CLK1p (210) (in), 23 CLK3p (205) (in), 24 IO (200) (io), 25 IO (198) (io), 26 IO (192) (io), 27 IO (190) (io), 28 VCCIO4 (power), 29 IO (188) (io), 30 IO (186) (io), 31 IO (184) (io), 32 IO (182) (io), 33 IO (180) (io), 35 IO (173) (io), 37 IO (169) (io), 38 IO (166) (io), 39 IO (164) (io), 40 IO (160) (io), 41 IO (157) (io), 43 IO (154) (io), 44 IO (151) (io), 45 VCCIO5 (power), 46 IO (146) (io), 47 IO (144) (io), 48 IO (142) (io), 49 IO (140) (io), 50 IO (137) (io), 53 FAST3 (134) (io), 56 FAST4 (125) (io), 59 IO (120) (io), 60 IO (119) (io), 61 VCCIO6 (power), 62 IO (115) (io), 63 IO (112) (io), 64 IO (109) (io), 65 IO (105) (io), 66 IO (103) (io), 67 IO (101) (io), 68 IO (97) (io), 69 IO (95) (io), 70 IO (93) (io), 71 IO (90) (io), 75 IO (79) (io), 76 IO (77) (io), 78 IO/LOCK4 (65) (io), 79 IO (63) (io), 80 IO/LOCK2 (61) (io), 84 IO/DEV_OE (53) (io), 89 VCCIO7 (power), 92 CLK2p (45) (in), 95 CLK4p (41) (in), 97 IO/DEV_CLRn (36) (io), 98 IO/CS (35) (io), 101 IO/nCS (29) (io), 102 IO/nRS (28) (io), 103 IO/nWS (25) (io), 104 IO/DATA7 (23) (io), 105 IO/DATA6 (17) (io), 107 VCCIO8 (power), 109 IO/DATA5 (334) (io), 110 IO (332) (io), 111 IO/DATA4 (330) (io), 112 IO/DATA3 (326) (io), 113 IO (321) (io), 114 IO (319) (io), 115 IO/DATA2 (317) (io), 116 VCCIO1 (power), 117 IO/DATA1 (310) (io), 118 IO (308) (io), 119 IO/CLKUSR (306) (io), 120 IO/RDYnBSY (304) (io), 121 IO/INIT_DONE (303) (io), 122 IO (302) (io), 124 FAST2 (299) (io), 127 FAST1 (292) (io), 130 IO (289) (io), 131 IO (287) (io), 132 IO (282) (io), 133 IO (280) (io), 135 IO (277) (io), 136 IO (275) (io), 137 IO (272) (io), 138 IO (269) (io), 139 IO (267) (io), 140 IO (265) (io), 141 IO (262) (io), 142 IO (258) (io), 143 IO (256) (io), 144 VCCIO2 (power)
part B pins: 18 MSEL0 (212) (in), 19 MSEL1 (211) (in), 21 CLKLK_ENA (209) (in), 22 nCONFIG (208) (in), 51 TMS (136) (in), 52 TCK (135) (in), 57 nSTATUS (124) (io), 58 CONF_DONE (123) (io), 81 CLKLK_OUT2p (59) (out), 90 TDI (47) (in), 91 nCE (46) (in), 93 DCLK (44) (in), 94 DATA0 (43) (in), 96 CLKLK_FB2p (39) (in), 123 TDO (300) (out), 128 nCEO (291) (out), 129 TRST (290) (in)
part C pins: 1 VCCINT (power), 4 GND (power), 12 GND (power), 16 VCCINT (power), 17 GND (power), 34 GND (power), 36 VCCINT (power), 42 GND (power), 54 GND (power), 55 VCCINT (power), 72 GND (power), 73 VCCINT (power), 74 GND (power), 77 GND (power), 82 GND_CKOUT2 (55) (power), 83 VCC_CKOUT2 (54) (power), 85 VCC_CKLK2 (52) (power), 86 VCCINT (power), 87 GND (power), 88 GND_CKLK2 (49/50) (power), 99 GND_CKLK4 (32/33) (power), 100 VCC_CKLK4 (31) (power), 106 GND (power), 108 VCCINT (power), 125 VCCINT (power), 126 GND (power), 134 GND (power)

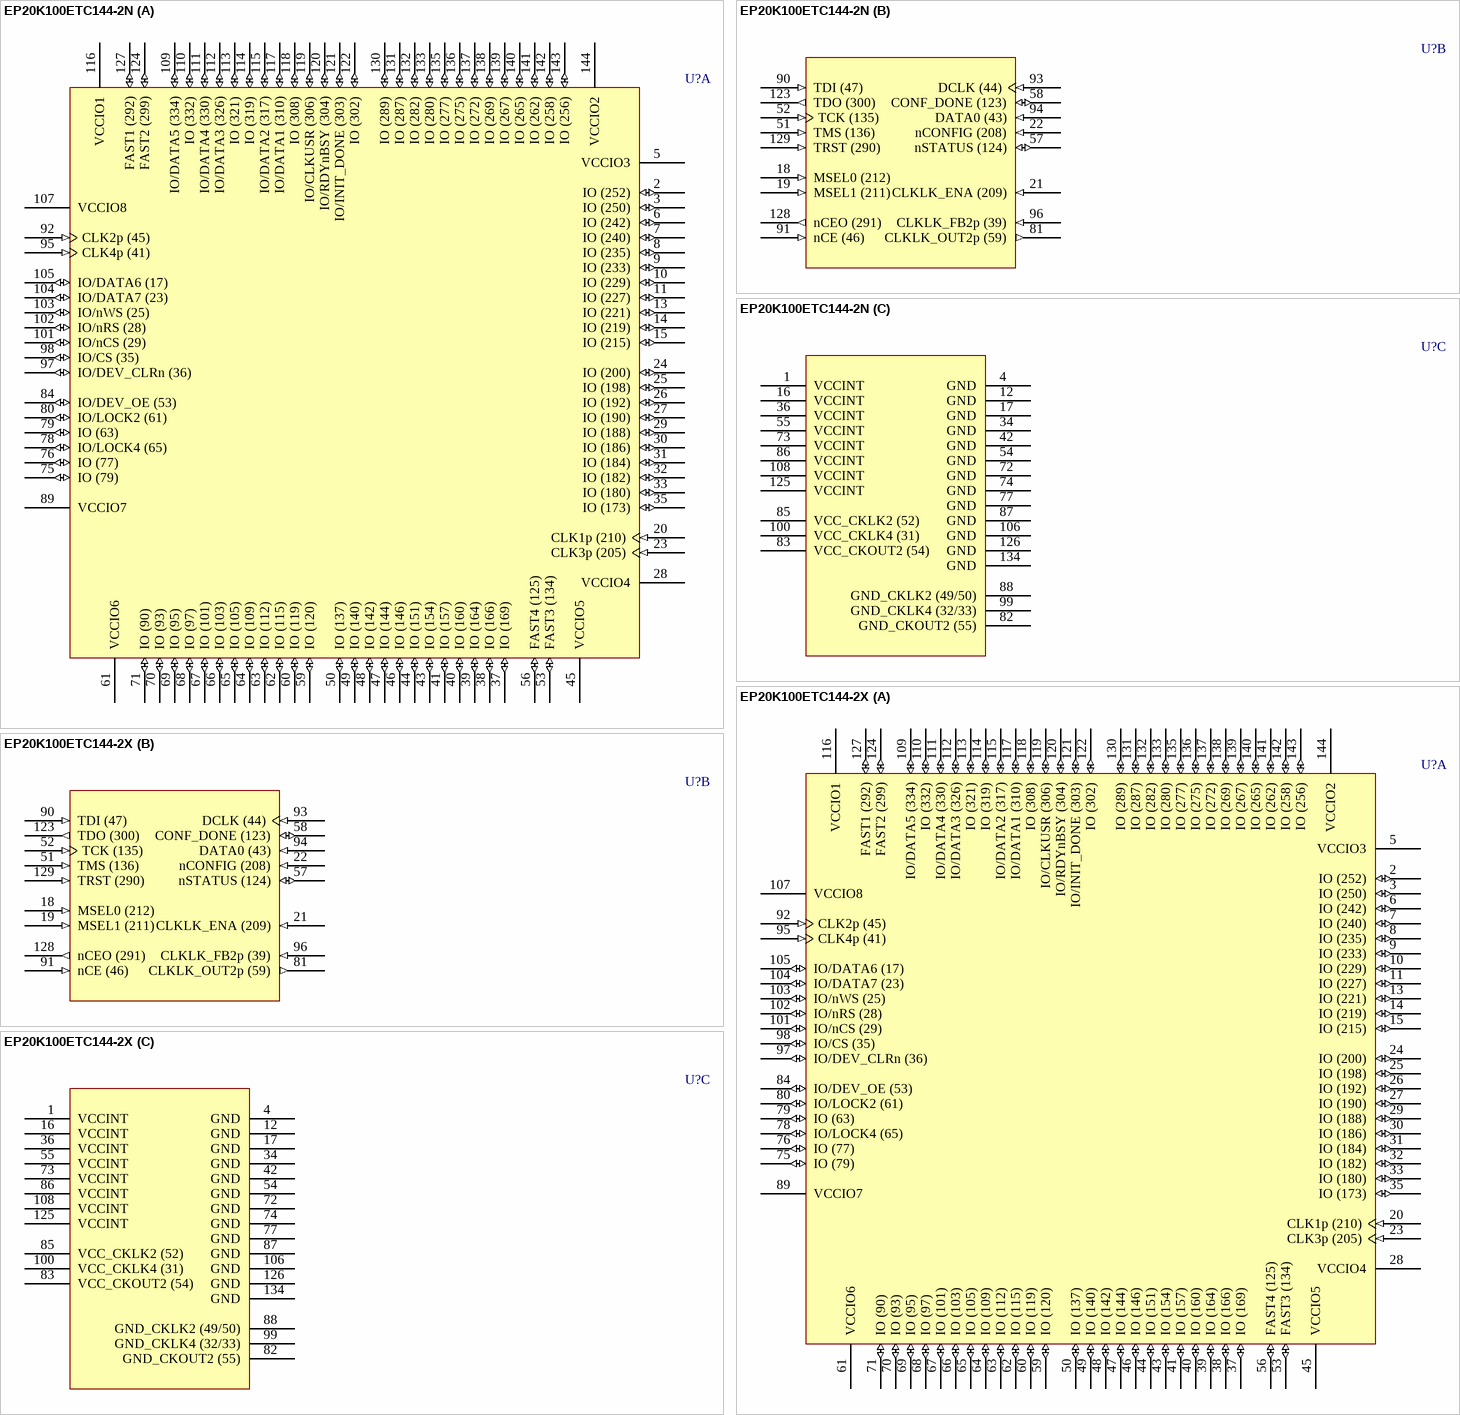
[diagram p109: symbols EP20K100ETC144-2N to EP20K100ETC144-2X]